# Altium schematic symbol library kalios.SchLib: 578 symbols (part 4 of 4)
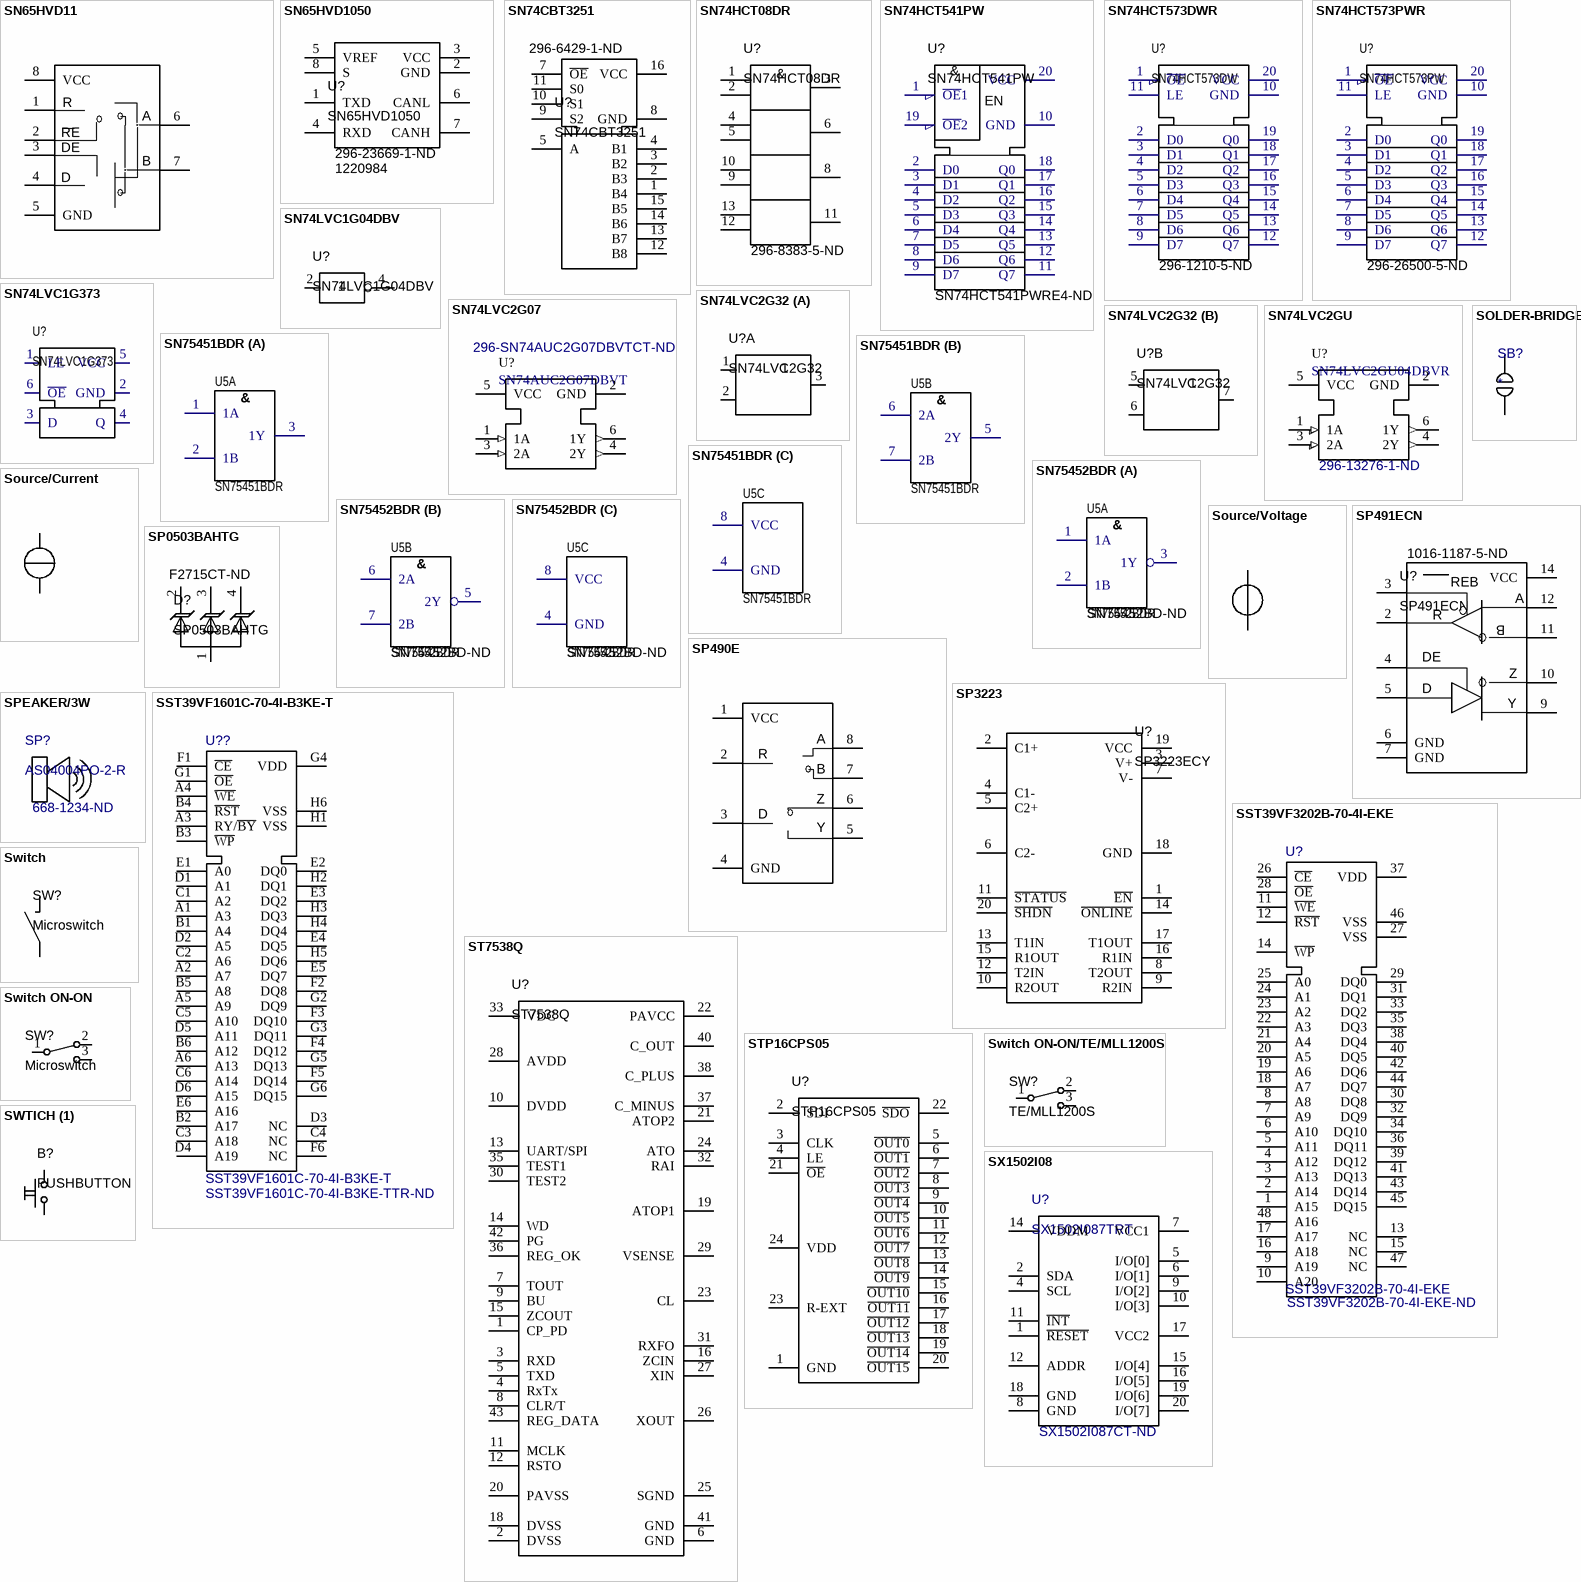
[diagram p27: symbols SN65HVD11 to SX1502I08]

## SN74HCT573PWR
designator U?, comment SN74HCT573PW  Supplier Part Number 1: 296-26500-5-ND
Octal latch with 3-STATE Outputs; Supplier 1: Digi-Key
footprint PW020 (Shrink Small Outline; 20 Leads; Body Width 4.4 mm; Pitch 0.65 mm)
pins: 1 ~{OE}, 2 D0, 3 D1, 4 D2, 5 D3, 6 D4, 7 D5, 8 D6, 9 D7, 10 GND, 11 LE, 12 Q7, 13 Q6, 14 Q5, 15 Q4, 16 Q3, 17 Q2, 18 Q1, 19 Q0, 20 VCC

## SN74LVC1G04DBV
designator U?
Supplier 1: Farnell; Supplier 2: Digi-Key; Supplier Part Number 1: 1287591RL; Supplier Part Number 2: 296-11599-6-ND
footprint DBV005 (SOT-23/SC-74A; 5 Leads; Body 3 x 3 mm, inc. leads (LxW max))
pins: 2 A, 3 GND (power) hidden to GND, 4 Y, 5 VCC (power) hidden to VCC
text: 1

## SN74LVC1G373
designator U?
pins: 1 LE, 2 GND, 3 D, 4 Q, 5 VCC, 6 ~{OE}

## SN74LVC2G07
designator U?, comment SN74AUC2G07DBVT  Supplier Part Number 1: 296-SN74AUC2G07DBVTCT-ND
Buffer, Non-Inverting 2 Element 1 Bit per Element Open Drain Output SOT-23-6; Supplier 1: Digi-Key
footprint SOT23-6 (SOT23, 6-Leads, Body 3.1x3.2mm (max), Pitch 0.95mm, IPC Medium Density)
pins: 1 1A (in), 2 GND (power), 3 2A (in), 4 2Y (out), 5 VCC (power), 6 1Y (out)

## SN74LVC2G32
designator U?
part A pins: 1 B, 2 A, 3 Y, 4 GND (power) hidden to GND, 8 VCC (power) hidden to VCC
part B pins: 5 A, 6 A, 7 Y

## SN74LVC2GU
designator U?, comment SN74LVC2GU04DBVR  Supplier Part Number 1: 296-13276-1-ND
IC INVERTER 2CH 2-INP SOT23-6; Supplier 1: Digi-Key
footprint SOT23-6 (SOT23, 6-Leads, Body 3.1x3.2mm (max), Pitch 0.95mm, IPC Medium Density)
pins: 1 1A (in), 2 GND (power), 3 2A (in), 4 2Y (out), 5 VCC (power), 6 1Y (out)

## SN75451BDR
designator U5
Dual AND - Peripheral Driver; Supplier 1: Digi-Key; Supplier Part Number 1: 296-14960-1-ND
footprint D008_M (8-Pin Small Outline Integrated Circuit 1.27 mm Pitch, IPC Low Density)
part A pins: 1 1A, 2 1B, 3 1Y
part B pins: 5 2Y, 6 2A, 7 2B
part C pins: 4 GND, 8 VCC
1 alternate drawing of the same symbol
part A text: &
part B text: &

## SN75452BDR
designator U5  Supplier Part Number 1: SN75452BD-ND
Dual AND - Peripheral Driver; Supplier 1: Digi-Key
footprint D008_M (8-Pin Small Outline Integrated Circuit 1.27 mm Pitch, IPC Low Density)
part A pins: 1 1A, 2 1B, 3 1Y
part B pins: 5 2Y, 6 2A, 7 2B
part C pins: 4 GND, 8 VCC
1 alternate drawing of the same symbol
part A text: &
part B text: &

## SOLDER-BRIDGE
designator SB?
footprint JUMPER/SB
pins: 1, 2

## Source/Current
designator I?
Current Source; Supplier 1: Digi-Key
pins: 1, 2

## Source/Voltage
designator V?
Voltage Source; Supplier 1: Digi-Key
pins: 1, 2

## SP490E
designator U?
RS485 FULL DUPLEX TRANSCIEVER; Supplier 1: Digi-Key
footprint SOIC8 (8-Pin Small Outline Integrated Circuit 1.27 mm Pitch, IPC Low Density)
pins: 1 VCC, 2 R, 3 D, 4 GND, 5 Y, 6 Z, 7 B, 8 A

## SP491ECN
designator U?  Supplier Part Number 1: 1016-1187-5-ND
Supplier 1: Digi-Key
footprint SOIC14 (14-Pin Small Outline Integrated Circuit 1.27 mm Pitch, IPC Low Density)
pins: 2 R, 3 ~{REB}, 4 DE, 5 D, 6 GND, 7 GND, 9 Y, 10 Z, 11 B, 12 A, 14 VCC
text: REB

## SP0503BAHTG
designator D?  Supplier Part Number 1: F2715CT-ND
TVS AVAL DIODE ARRAY 3 CH SOT143; Supplier 1: Digi-Key
pins: 1, 2, 3, 4

## SP3223
designator U?, comment SP3223ECY
IC TXRX RS232 ESD 20TSSOP
footprint TSSOP20 (TSOP, 20-Leads, Body 6.6x4.5mm (max), Pitch 0.65mm, IPC Low Density)
pins: 1 ~{EN}, 2 C1+, 3 V+, 4 C1-, 5 C2+, 6 C2-, 7 V-, 8 T2OUT, 9 R2IN, 10 R2OUT, 11 ~{STATUS}, 12 T2IN, 13 T1IN, 14 ~{ONLINE}, 15 R1OUT, 16 R1IN, 17 T1OUT, 18 GND, 19 VCC, 20 ~{SHDN}

## SPEAKER/3W
designator SP?, comment AS04004PO-2-R  Supplier Part Number 1: 668-1234-ND  (mechanical)
SPEAKER 4OHM 3W TOP PORT 82DB; Supplier 1: Digi-Key

## SST39VF1601C-70-4I-B3KE-T
designator U??  Supplier Part Number 1: SST39VF1601C-70-4I-B3KE-TTR-ND
FLASH Memory IC 16Mb (1M x 16) Parallel 70 ns 48-TFBGA (6x8); Supplier 1: Digi-Key
pins: A1 A3, A2 A7, A3 RY/~{BY}, A4 ~{WE}, A5 A9, A6 A13, B1 A4, B2 A17, B3 ~{WP}, B4 ~{RST}, B5 A8, B6 A12, C1 A2, C2 A6, C3 A18, C4 NC, C5 A10, C6 A14, D1 A1, D2 A5, D3 NC, D4 A19, D5 A11, D6 A15, E1 A0, E2 DQ0, E3 DQ2, E4 DQ5, E5 DQ7, E6 A16, F1 ~{CE}, F2 DQ8, F3 DQ10, F4 DQ12, F5 DQ14, F6 NC, G1 ~{OE}, G2 DQ9, G3 DQ11, G4 VDD, G5 DQ13, G6 DQ15, H1 VSS, H2 DQ1, H3 DQ3, H4 DQ4, H5 DQ6, H6 VSS

## SST39VF3202B-70-4I-EKE
designator U?  Supplier Part Number 1: SST39VF3202B-70-4I-EKE-ND
FLASH Memory IC 32Mb (2M x 16) Parallel 70 ns 48-TSOP; Supplier 1: Digi-Key
footprint TSOP48_EKE_SST_MCH
pins: 1 A15, 2 A14, 3 A13, 4 A12, 5 A11, 6 A10, 7 A9, 8 A8, 9 A19, 10 A20, 11 ~{WE}, 12 ~{RST}, 13 NC, 14 ~{WP}, 15 NC, 16 A18, 17 A17, 18 A7, 19 A6, 20 A5, 21 A4, 22 A3, 23 A2, 24 A1, 25 A0, 26 ~{CE}, 27 VSS, 28 ~{OE}, 29 DQ0, 30 DQ8, 31 DQ1, 32 DQ9, 33 DQ2, 34 DQ10, 35 DQ3, 36 DQ11, 37 VDD, 38 DQ4, 39 DQ12, 40 DQ5, 41 DQ13, 42 DQ6, 43 DQ14, 44 DQ7, 45 DQ15, 46 VSS, 47 NC, 48 A16

## ST7538Q
designator U?
pins: 1 CP_PD, 2 DVSS, 3 RXD, 4 RxTx, 5 TXD, 6 GND, 7 TOUT, 8 CLR/T, 9 BU, 10 DVDD, 11 MCLK, 12 RSTO, 13 UART/SPI, 14 WD, 15 ZCOUT, 16 ZCIN, 18 DVSS, 19 ATOP1, 20 PAVSS, 21 ATOP2, 22 PAVCC, 23 CL, 24 ATO, 25 SGND, 26 XOUT, 27 XIN, 28 AVDD, 29 VSENSE, 30 TEST2, 31 RXFO, 32 RAI, 33 VDC, 35 TEST1, 36 REG_OK, 37 C_MINUS, 38 C_PLUS, 40 C_OUT, 41 GND, 42 PG, 43 REG_DATA

## STP16CPS05
designator U?
footprint SOIC24 (SOIC, 24-Leads, Body 15.6x7.6mm (max), Pitch 1.27mm, IPC Medium Density)
pins: 1 GND, 2 SDI, 3 CLK, 4 LE, 5 ~{OUT0}, 6 ~{OUT1}, 7 ~{OUT2}, 8 ~{OUT3}, 9 ~{OUT4}, 10 ~{OUT5}, 11 ~{OUT6}, 12 ~{OUT7}, 13 ~{OUT8}, 14 ~{OUT9}, 15 ~{OUT10}, 16 ~{OUT11}, 17 ~{OUT12}, 18 ~{OUT13}, 19 ~{OUT14}, 20 ~{OUT15}, 21 ~{OE}, 22 ~{SDO}, 23 R-EXT, 24 VDD

## Switch
designator SW?, comment Microswitch
pins: 1, 2

## Switch ON-ON
designator SW?, comment Microswitch
pins: 1, 2, 3

## Switch ON-ON/TE/MLL1200S
designator SW?, comment TE/MLL1200S
SWITCH SLIDE SMD SPDT SIDE
footprint TE/MLL1200S (Footprint not found)
pins: 1, 2, 3

## SWTICH (1)
designator B?, comment PUSHBUTTON
pins: 1, 2

## SX1502I08
designator U?, comment SX1502I087TRT  Supplier Part Number 1: SX1502I087CT-ND
IC GPIO EXPANDER I2C 8CH 20QFNI/O Expander 8 I²C 400kHz 20-QFN-UT (3x3); Supplier 1: Digi-Key
footprint QFN40P300X300X50_HS-21N (QFN, 20-Leads, Body 3.00x3.00mm, Pitch 0.40mm, Thermal Pad 1.68x1.68mm, IPC Medium Density)
pins: 1 ~{RESET}, 2 SDA, 4 SCL, 5 I/O[0], 6 I/O[1], 7 VCC1, 8 GND, 9 I/O[2], 10 I/O[3], 11 ~{INT}, 12 ADDR, 14 VDDM, 15 I/O[4], 16 I/O[5], 17 VCC2, 18 GND, 19 I/O[6], 20 I/O[7]

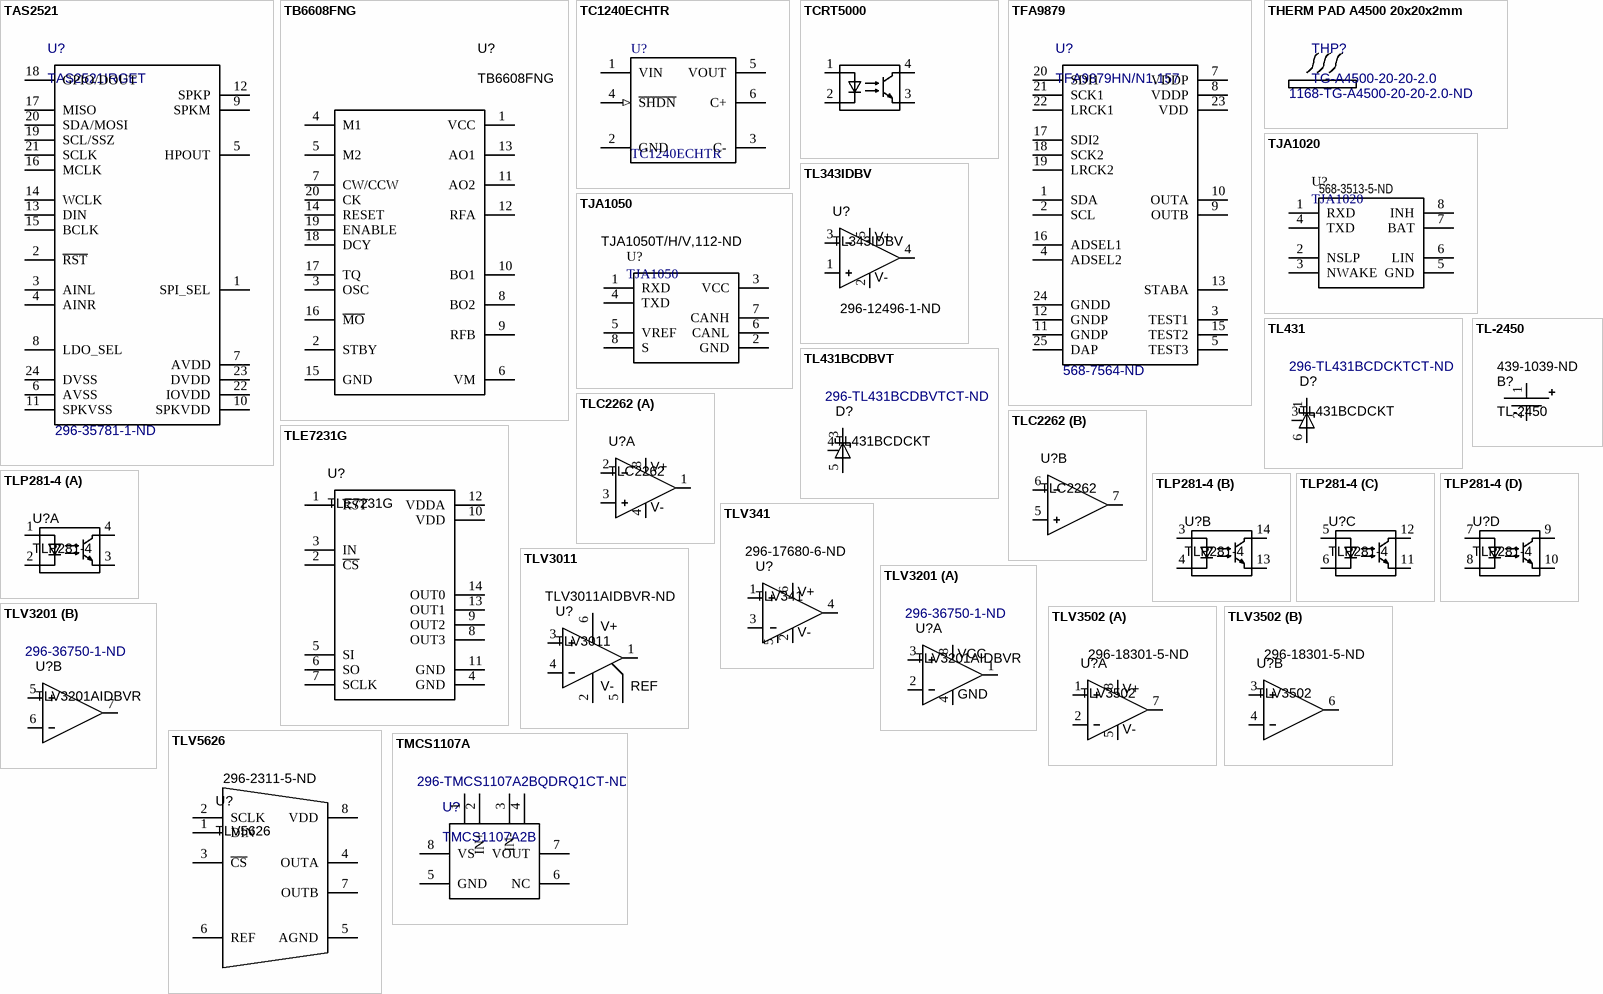
[diagram p19: symbols TAS2521 to TMCS1107A]

## TAS2521
designator U?, comment TAS2521IRGET  Supplier Part Number 1: 296-35781-1-ND
IC AMP CLASS D MONO 2W 24VQFN; Supplier 1: Digi-Key
footprint QFN50P400X400X100-25N
pins: 1 SPI_SEL, 2 ~{RST}, 3 AINL, 4 AINR, 5 HPOUT, 6 AVSS, 7 AVDD, 8 LDO_SEL, 9 SPKM, 10 SPKVDD, 11 SPKVSS, 12 SPKP, 13 DIN, 14 WCLK, 15 BCLK, 16 MCLK, 17 MISO, 18 GPIO/DOUT, 19 SCL/SSZ, 20 SDA/MOSI, 21 SCLK, 22 IOVDD, 23 DVDD, 24 DVSS

## TB6608FNG
designator U?
pins: 1 VCC, 2 STBY, 3 OSC, 4 M1, 5 M2, 6 VM, 7 CW/CCW, 8 BO2, 9 RFB, 10 BO1, 11 AO2, 12 RFA, 13 AO1, 14 RESET, 15 GND, 16 ~{MO}, 17 TQ, 18 DCY, 19 ENABLE, 20 CK

## TC1240ECHTR
designator U?
Positive Doubling Charge Pumps with Shutdown, +2.5V to +4.0V, 6-Pin SOT-23, Industrial Temperature, Tape and Reel; Published: 29-Jan-2009; DatasheetVersion: revC, May-2003; PackageVersion: revAW, Oct-2008; PackageReference: SOT-23-CH6; Publisher: Altium Limited; PackageDescription: 6-Lead Plastic Small Outline Transistor (CH) [SOT-23]; Code_IPC: SOT26A-6; ComponentLink1Description: Manufacturer Link; ComponentLink1URL: http://www.microchip.com; ComponentLink2Description: Datasheet; ComponentLink2URL: http://ww1.microchip.com/downloads/en/DeviceDoc/21516c.pdf; ComponentLink3Description: Packaging Specification; ComponentLink3URL: http://ww1.microchip.com/downloads/en/PackagingSpec/00049AW.pdf
footprint SOT-23-CH6_N (SOT23, 6-Leads, Body 2.9x1.6mm, Pitch 0.95mm, Lead Span 2.7mm, IPC Medium Density)
footprint SOT-23-CH6_L (SOT23, 6-Leads, Body 2.9x1.6mm, Pitch 0.95mm, Lead Span 2.7mm, IPC High Density)
footprint SOT-23-CH6_M (SOT23, 6-Leads, Body 2.9x1.6mm, Pitch 0.95mm, Lead Span 2.7mm, IPC Low Density)
pins: 1 VIN (power), 2 GND (power), 3 C-, 4 ~{SHDN} (in), 5 VOUT (power), 6 C+

## TCRT5000
designator U?
Supplier 1: Digi-Key
pins: 1, 2, 3, 4

## TFA9879
designator U?, comment TFA9879HN/N1,157  Supplier Part Number 1: 568-7564-ND
IC AMP CLSS D MONO 2.75W 24HVQFN; Supplier 1: Digi-Key
footprint QFN50P260X260X100-25N
pins: 1 SDA, 2 SCL, 3 TEST1, 4 ADSEL2, 5 TEST3, 7 VDDP, 8 VDDP, 9 OUTB, 10 OUTA, 11 GNDP, 12 GNDP, 13 STABA, 15 TEST2, 16 ADSEL1, 17 SDI2, 18 SCK2, 19 LRCK2, 20 SDI1, 21 SCK1, 22 LRCK1, 23 VDD, 24 GNDD, 25 DAP

## THERM PAD A4500 20x20x2mm
designator THP?, comment TG-A4500-20-20-2.0  Supplier Part Number 1: 1168-TG-A4500-20-20-2.0-ND  (mechanical)
Thermal Pad Purple 20.00mm x 20.00mm Square Tacky - Both Sides; Supplier 1: Digi-Key

## TJA1020
designator U?  Supplier Part Number 1: 568-3513-5-ND
Supplier 1: Digi-Key
footprint SOIC8 (8-Pin Small Outline Integrated Circuit 1.27 mm Pitch, IPC Low Density)
pins: 1 RXD, 2 NSLP, 3 NWAKE, 4 TXD, 5 GND, 6 LIN, 7 BAT, 8 INH

## TJA1050
designator U?  Supplier Part Number 1: TJA1050T/H/V,112-ND
Supplier 1: Digi-Key
footprint SOIC8 (8-Pin Small Outline Integrated Circuit 1.27 mm Pitch, IPC Low Density)
pins: 1 RXD, 2 GND, 3 VCC, 4 TXD, 5 VREF, 6 CANL, 7 CANH, 8 S

## TL343IDBV
designator U?  Supplier Part Number 2: 296-12496-1-ND
Single low-power operational amplifier; Supplier 1: Farnell; Supplier 2: Digi-Key; Supplier Part Number 1: 1755394
footprint DBV005 (SOT-23/SC-74A; 5 Leads; Body 3 x 3 mm, inc. leads (LxW max))
pins: 1 IN+, 2 V-, 3 IN-, 4 OUT, 5 V+
1 alternate drawing of the same symbol

## TL431
designator D?, comment TL431BCDCKT  Supplier Part Number 1: 296-TL431BCDCKTCT-ND
IC VREF SHUNT ADJ 0.5% SC70-6; Supplier 1: Digi-Key; Value: TL431BCDCKT
footprint SC70-6 (SOT363, 6-Leads, Body 2x1.3mm, Pitch 0.65mm, Lead Span 2.1mm, IPC Low Density)
pins: 1 Cathode, 3 Ref, 6 Anode
1 alternate drawing of the same symbol

## TL431BCDBVT
designator D?, comment TL431BCDCKT  Supplier Part Number 1: 296-TL431BCDBVTCT-ND
IC VREF SHUNT ADJ 0.5% SC70-6; Value: TL431BCDCKT; Supplier 1: Digi-Key
footprint SOT23-5 (SOT23, 5-Leads, Body 3.0x2.6mm (max), Pitch 0.95mm, IPC Low Density)
pins: 3 Cathode, 4 Ref, 5 Anode
1 alternate drawing of the same symbol

## TL-2450
designator B?  Supplier Part Number 1: 439-1039-ND
Supplier 1: Digi-Key
pins: 1 +, 2 -

## TLC2262
designator U?
Dual Operational Amplifier
footprint SOIC8 (8-Pin Small Outline Integrated Circuit 1.27 mm Pitch, IPC Low Density)
part A pins: 1 OUT, 2 IN-, 3 IN+, 4 V-, 8 V+
part B pins: 5 IN+, 6 IN-, 7 OUT
1 alternate drawing of the same symbol

## TLE7231G
designator U?
IC DRIVER SPI 4CH LS DSO-14
pins: 1 ~{RST}, 2 ~{CS}, 3 IN, 4 GND, 5 SI, 6 SO, 7 SCLK, 8 OUT3, 9 OUT2, 10 VDD, 11 GND, 12 VDDA, 13 OUT1, 14 OUT0

## TLP281-4
designator U?
footprint TLP281-4 (SOIC, 16-Leads, Body 10.5x4.4mm (max), Pitch 1.27mm, IPC Low Density)
part A pins: 1, 2, 3, 4
part B pins: 3, 4, 13, 14
part C pins: 5, 6, 11, 12
part D pins: 7, 8, 9, 10

## TLV341
designator U?  Supplier Part Number 1: 296-17680-6-ND
IC OPAMP GP R-R 2.3MHz SOT23-6; Supplier 1: Digi-Key
footprint SOT23-6 (SOT23, 6-Leads, Body 3.1x3.2mm (max), Pitch 0.95mm, IPC Medium Density)
pins: 1 IN+, 2 GND, 3 IN-, 4 OUT, 5 SHDN, 6 V+
text: V-

## TLV3011
designator U?  Supplier Part Number 1: TLV3011AIDBVR-ND
IC COMPARATOR 1.8V SOT23-6; Supplier 1: Digi-Key
pins: 1 OUT, 2 V-, 3 IN+, 4 IN-, 5 REF, 6 V+

## TLV3201
designator U?, comment TLV3201AIDBVR  Supplier Part Number 1: 296-36750-1-ND
Comparator General Purpose Push-Pull SOT-23-5 / IC COMPARATOR RRI SGL SOT23-5; Supplier 1: Digi-Key
part A pins: 1 OUT, 2 IN-, 3 IN+, 4 GND, 8 V+
part B pins: 5 IN+, 6 IN-, 7 OUT
1 alternate drawing of the same symbol
part A text: VCC

## TLV3502
designator U?  Supplier Part Number 1: 296-18301-5-ND
4.5ns Rail-to-Rail, High-Speed Comparator; Supplier 1: Digi-Key
part A pins: 1 IN+, 2 IN-, 5 V-, 7 OUT, 8 V+
part B pins: 3 IN+, 4 IN-, 6 OUT
1 alternate drawing of the same symbol

## TLV5626
designator U?  Supplier Part Number 1: 296-2311-5-ND
Supplier 1: Digi-Key
footprint SOIC8 (8-Pin Small Outline Integrated Circuit 1.27 mm Pitch, IPC Low Density)
pins: 1 DIN, 2 SCLK, 3 ~{CS}, 4 OUTA, 5 AGND, 6 REF, 7 OUTB, 8 VDD

## TMCS1107A
designator U?, comment TMCS1107A2B  Supplier Part Number 1: 296-TMCS1107A2BQDRQ1CT-ND
AEC-Q100, 420-V ISOLATED HALL-EF; Supplier 1: Digi-Key; Value: TMCS1107A2B
footprint SOIC8 (8-Pin Small Outline Integrated Circuit 1.27 mm Pitch, IPC Low Density)
pins: 1 IN+, 2 IN+, 3 IN-, 4 IN-, 5 GND, 6 NC, 7 VOUT, 8 VS

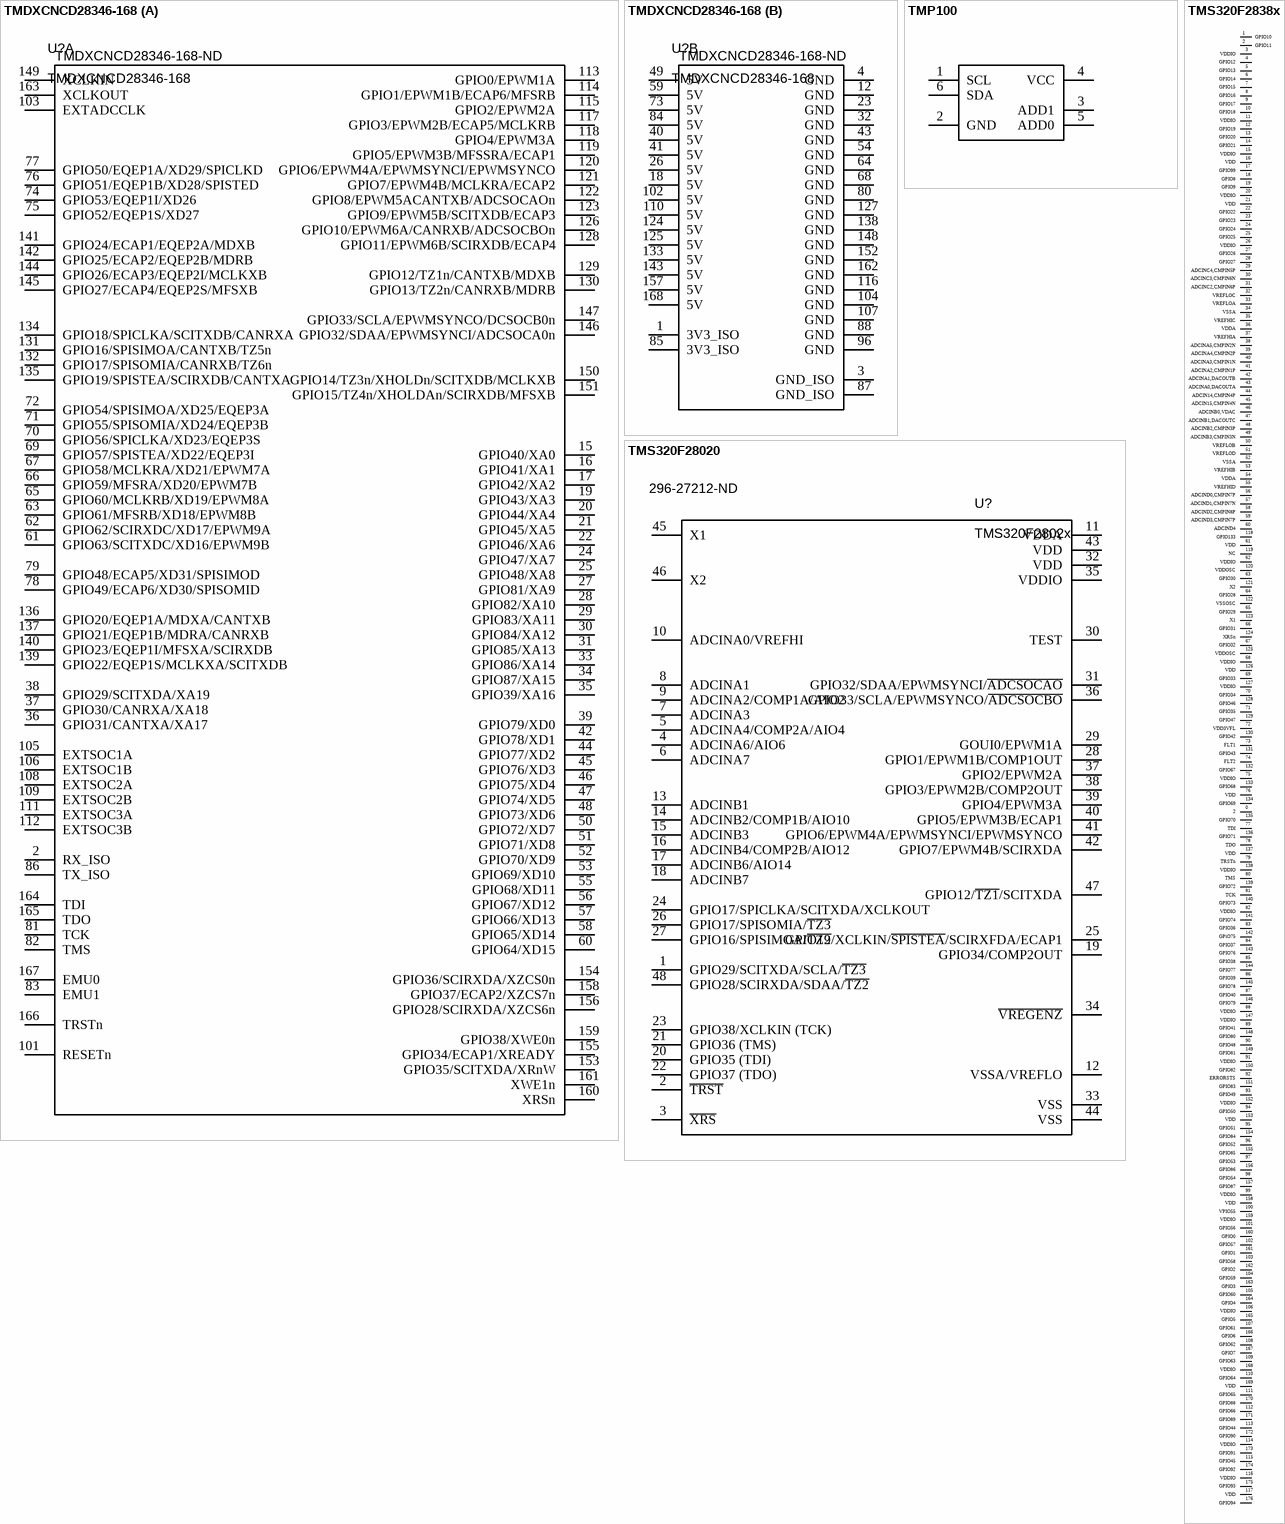
[diagram p20: symbols TMDXCNCD28346-168 to TMS320F28020]

## TMDXCNCD28346-168
designator U?  Supplier Part Number 1: TMDXCNCD28346-168-ND
C28346 Control Card DIMM 168; Supplier 1: Digi-Key
footprint Tyco/1-5390171-6/DIMM168
part A pins: 2 RX_ISO, 15 GPIO40/XA0, 16 GPIO41/XA1, 17 GPIO42/XA2, 19 GPIO43/XA3, 20 GPIO44/XA4, 21 GPIO45/XA5, 22 GPIO46/XA6, 24 GPIO47/XA7, 25 GPIO48/XA8, 27 GPIO81/XA9, 28 GPIO82/XA10, 29 GPIO83/XA11, 30 GPIO84/XA12, 31 GPIO85/XA13, 33 GPIO86/XA14, 34 GPIO87/XA15, 35 GPIO39/XA16, 36 GPIO31/CANTXA/XA17, 37 GPIO30/CANRXA/XA18, 38 GPIO29/SCITXDA/XA19, 39 GPIO79/XD0, 42 GPIO78/XD1, 44 GPIO77/XD2, 45 GPIO76/XD3, 46 GPIO75/XD4, 47 GPIO74/XD5, 48 GPIO73/XD6, 50 GPIO72/XD7, 51 GPIO71/XD8, 52 GPIO70/XD9, 53 GPIO69/XD10, 55 GPIO68/XD11, 56 GPIO67/XD12, 57 GPIO66/XD13, 58 GPIO65/XD14, 60 GPIO64/XD15, 61 GPIO63/SCITXDC/XD16/EPWM9B, 62 GPIO62/SCIRXDC/XD17/EPWM9A, 63 GPIO61/MFSRB/XD18/EPWM8B, 65 GPIO60/MCLKRB/XD19/EPWM8A, 66 GPIO59/MFSRA/XD20/EPWM7B, 67 GPIO58/MCLKRA/XD21/EPWM7A, 69 GPIO57/SPISTEA/XD22/EQEP3I, 70 GPIO56/SPICLKA/XD23/EQEP3S, 71 GPIO55/SPISOMIA/XD24/EQEP3B, 72 GPIO54/SPISIMOA/XD25/EQEP3A, 74 GPIO53/EQEP1I/XD26, 75 GPIO52/EQEP1S/XD27, 76 GPIO51/EQEP1B/XD28/SPISTED, 77 GPIO50/EQEP1A/XD29/SPICLKD, 78 GPIO49/ECAP6/XD30/SPISOMID, 79 GPIO48/ECAP5/XD31/SPISIMOD, 81 TCK, 82 TMS, 83 EMU1, 86 TX_ISO, 101 RESETn, 103 EXTADCCLK, 105 EXTSOC1A, 106 EXTSOC1B, 108 EXTSOC2A, 109 EXTSOC2B, 111 EXTSOC3A, 112 EXTSOC3B, 113 GPIO0/EPWM1A, 114 GPIO1/EPWM1B/ECAP6/MFSRB, 115 GPIO2/EPWM2A, 117 GPIO3/EPWM2B/ECAP5/MCLKRB, 118 GPIO4/EPWM3A, 119 GPIO5/EPWM3B/MFSSRA/ECAP1, 120 GPIO6/EPWM4A/EPWMSYNCI/EPWMSYNCO, 121 GPIO7/EPWM4B/MCLKRA/ECAP2, 122 GPIO8/EPWM5ACANTXB/ADCSOCAOn, 123 GPIO9/EPWM5B/SCITXDB/ECAP3, 126 GPIO10/EPWM6A/CANRXB/ADCSOCBOn, 128 GPIO11/EPWM6B/SCIRXDB/ECAP4, 129 GPIO12/TZ1n/CANTXB/MDXB, 130 GPIO13/TZ2n/CANRXB/MDRB, 131 GPIO16/SPISIMOA/CANTXB/TZ5n, 132 GPIO17/SPISOMIA/CANRXB/TZ6n, 134 GPIO18/SPICLKA/SCITXDB/CANRXA, 135 GPIO19/SPISTEA/SCIRXDB/CANTXA, 136 GPIO20/EQEP1A/MDXA/CANTXB, 137 GPIO21/EQEP1B/MDRA/CANRXB, 139 GPIO22/EQEP1S/MCLKXA/SCITXDB, 140 GPIO23/EQEP1I/MFSXA/SCIRXDB, 141 GPIO24/ECAP1/EQEP2A/MDXB, 142 GPIO25/ECAP2/EQEP2B/MDRB, 144 GPIO26/ECAP3/EQEP2I/MCLKXB, 145 GPIO27/ECAP4/EQEP2S/MFSXB, 146 GPIO32/SDAA/EPWMSYNCI/ADCSOCA0n, 147 GPIO33/SCLA/EPWMSYNCO/DCSOCB0n, 149 XCLKIN, 150 GPIO14/TZ3n/XHOLDn/SCITXDB/MCLKXB, 151 GPIO15/TZ4n/XHOLDAn/SCIRXDB/MFSXB, 153 GPIO35/SCITXDA/XRnW, 154 GPIO36/SCIRXDA/XZCS0n, 155 GPIO34/ECAP1/XREADY, 156 GPIO28/SCIRXDA/XZCS6n, 158 GPIO37/ECAP2/XZCS7n, 159 GPIO38/XWE0n, 160 XRSn, 161 XWE1n, 163 XCLKOUT, 164 TDI, 165 TDO, 166 TRSTn, 167 EMU0
part B pins: 1 3V3_ISO, 3 GND_ISO, 4 GND, 12 GND, 18 5V, 23 GND, 26 5V, 32 GND, 40 5V, 41 5V, 43 GND, 49 5V, 54 GND, 59 5V, 64 GND, 68 GND, 73 5V, 80 GND, 84 5V, 85 3V3_ISO, 87 GND_ISO, 88 GND, 96 GND, 102 5V, 104 GND, 107 GND, 110 5V, 116 GND, 124 5V, 125 5V, 127 GND, 133 5V, 138 GND, 143 5V, 148 GND, 152 GND, 157 5V, 162 GND, 168 5V

## TMP100
designator U?
IC DIGITAL TEMP SENSOR SOT23-6; Supplier 1: Digi-Key
footprint SOT23-6 (SOT23, 6-Leads, Body 3.1x3.2mm (max), Pitch 0.95mm, IPC Medium Density)
pins: 1 SCL, 2 GND, 3 ADD1, 4 VCC, 5 ADD0, 6 SDA

## TMS320F2838x
designator 1, comment GPIO10
pins: 0 2, 1 GPIO10, 2 GPIO11, 3 VDDIO (power), 4 GPIO12, 5 GPIO13, 6 GPIO14, 7 GPIO15, 8 GPIO16, 9 GPIO17, 10 GPIO18, 11 VDDIO (power), 12 GPIO19, 13 GPIO20, 14 GPIO21, 15 VDDIO (power), 16 VDD (power), 17 GPIO99, 18 GPIO8, 19 GPIO9, 20 VDDIO (power), 21 VDD (power), 22 GPIO22, 23 GPIO23, 24 GPIO24, 25 GPIO25, 26 VDDIO (power), 27 GPIO26, 28 GPIO27, 29 ADCINC4,CMPIN5P, 30 ADCINC3,CMPIN6N, 31 ADCINC2,CMPIN6P, 32 VREFLOC, 33 VREFLOA, 34 VSSA, 35 VREFHIC, 36 VDDA, 37 VREFHIA, 38 ADCINA5,CMPIN2N, 39 ADCINA4,CMPIN2P, 40 ADCINA3,CMPIN1N, 41 ADCINA2,CMPIN1P, 42 ADCINA1,DACOUTB, 43 ADCINA0,DACOUTA, 44 ADCIN14,CMPIN4P, 45 ADCIN15,CMPIN4N, 46 ADCINB0,VDAC, 47 ADCINB1,DACOUTC, 48 ADCINB2,CMPIN3P, 49 ADCINB3,CMPIN3N, 50 VREFLOB, 51 VREFLOD, 52 VSSA, 53 VREFHIB, 54 VDDA, 55 VREFHID, 56 ADCIND0,CMPIN7P, 57 ADCIND1,CMPIN7N, 58 ADCIND2,CMPIN8P, 59 ADCIND3,CMPIN7P, 60 ADCIND4, 61 VDD, 62 VDDIO, 63 GPIO30, 64 GPIO28, 65 GPIO29, 66 GPIO31, 67 GPIO32, 68 VDDIO, 69 GPIO33, 70 GPIO34, 71 GPIO35, 72 VDD3VFL, 73 FLT1, 74 FLT2, 75 VDDIO, 76 VDD, 77 TDI, 78 TDO, 79 TRSTn, 80 TMS, 81 TCK, 82 VDDIO, 83 GPIO36, 84 GPIO37, 85 GPIO38, 86 GPIO39, 87 GPIO40, 88 VDDIO, 89 GPIO41, 90 GPIO48, 91 VDDIO, 92 ERRORSTS, 93 GPIO49, 94 GPIO50, 95 GPIO51, 96 GPIO52, 97 GPIO53, 98 GPIO54, 99 VDDIO, 100 VPIO55, 101 GPIO56, 102 GPIO57, 103 GPIO58, 104 GPIO59, 105 GPIO60, 106 VDDIO, 107 GPIO61, 108 GPIO62, 109 GPIO63, 110 GPIO64, 111 GPIO65, 112 GPIO66, 113 GPIO44, 114 VDDIO, 115 GPIO45, 116 VDDIO, 117 VDD, 118 GPIO133, 119 NC, 120 VDDOSC, 121 X2, 122 VSSOSC, 123 X1, 124 XRSn, 125 VDDOSC, 126 VDD, 127 VDDIO, 128 GPIO46, 129 GPIO47, 130 GPIO42, 131 GPIO43, 132 GPIO67, 133 GPIO68, 134 GPIO69, 135 GPIO70, 136 GPIO71, 137 VDD, 138 VDDIO, 139 GPIO72, 140 GPIO73, 141 GPIO74, 142 GPiO75, 143 GPIO76, 144 GPIO77, 145 GPIO78, 146 GPIO79, 147 VDDIO, 148 GPIO80, 149 GPIO81, 150 GPIO82, 151 GPIO83, 152 VDDIO, 153 VDD, 154 GPIO84, 155 GPIO85, 156 GPIO86, 157 GPIO87, 158 VDD, 159 VDDIO, 160 GPIO0, 161 GPIO1, 162 GPIO2, 163 GPIO3, 164 GPIO4, 165 GPIO5, 166 GPIO6, 167 GPIO7, 168 VDDIO, 169 VDD, 170 GPIO88, 171 GPIO89, 172 GPIO90, 173 GPIO91, 174 GPIO92, 175 GPIO93, 176 GPIO94

## TMS320F28020
designator U?, comment TMS320F2802x  Supplier Part Number 1: 296-27212-ND
Supplier 1: Digi-Key
pins: 1 GPIO29/SCITXDA/SCLA/~{TZ3}, 2 ~{TRST}, 3 ~{XRS}, 4 ADCINA6/AIO6, 5 ADCINA4/COMP2A/AIO4, 6 ADCINA7, 7 ADCINA3, 8 ADCINA1, 9 ADCINA2/COMP1A/AIO2, 10 ADCINA0/VREFHI, 11 VDDA, 12 VSSA/VREFLO, 13 ADCINB1, 14 ADCINB2/COMP1B/AIO10, 15 ADCINB3, 16 ADCINB4/COMP2B/AIO12, 17 ADCINB6/AIO14, 18 ADCINB7, 19 GPIO34/COMP2OUT, 20 GPIO35 (TDI), 21 GPIO36 (TMS), 22 GPIO37 (TDO), 23 GPIO38/XCLKIN (TCK), 24 GPIO17/SPICLKA/SCITXDA/XCLKOUT, 25 GPIO19/XCLKIN/~{SPISTEA}/SCIRXFDA/ECAP1, 26 GPIO17/SPISOMIA/~{TZ3}, 27 GPIO16/SPISIMOA/~{TZ2}, 28 GPIO1/EPWM1B/COMP1OUT, 29 GOUI0/EPWM1A, 30 TEST, 31 GPIO32/SDAA/EPWMSYNCI/~{ADCSOCAO}, 32 VDD, 33 VSS, 34 ~{VREGENZ}, 35 VDDIO, 36 GPIO33/SCLA/EPWMSYNCO/~{ADCSOCBO}, 37 GPIO2/EPWM2A, 38 GPIO3/EPWM2B/COMP2OUT, 39 GPIO4/EPWM3A, 40 GPIO5/EPWM3B/ECAP1, 41 GPIO6/EPWM4A/EPWMSYNCI/EPWMSYNCO, 42 GPIO7/EPWM4B/SCIRXDA, 43 VDD, 44 VSS, 45 X1, 46 X2, 47 GPIO12/~{TZ1}/SCITXDA, 48 GPIO28/SCIRXDA/SDAA/~{TZ2}

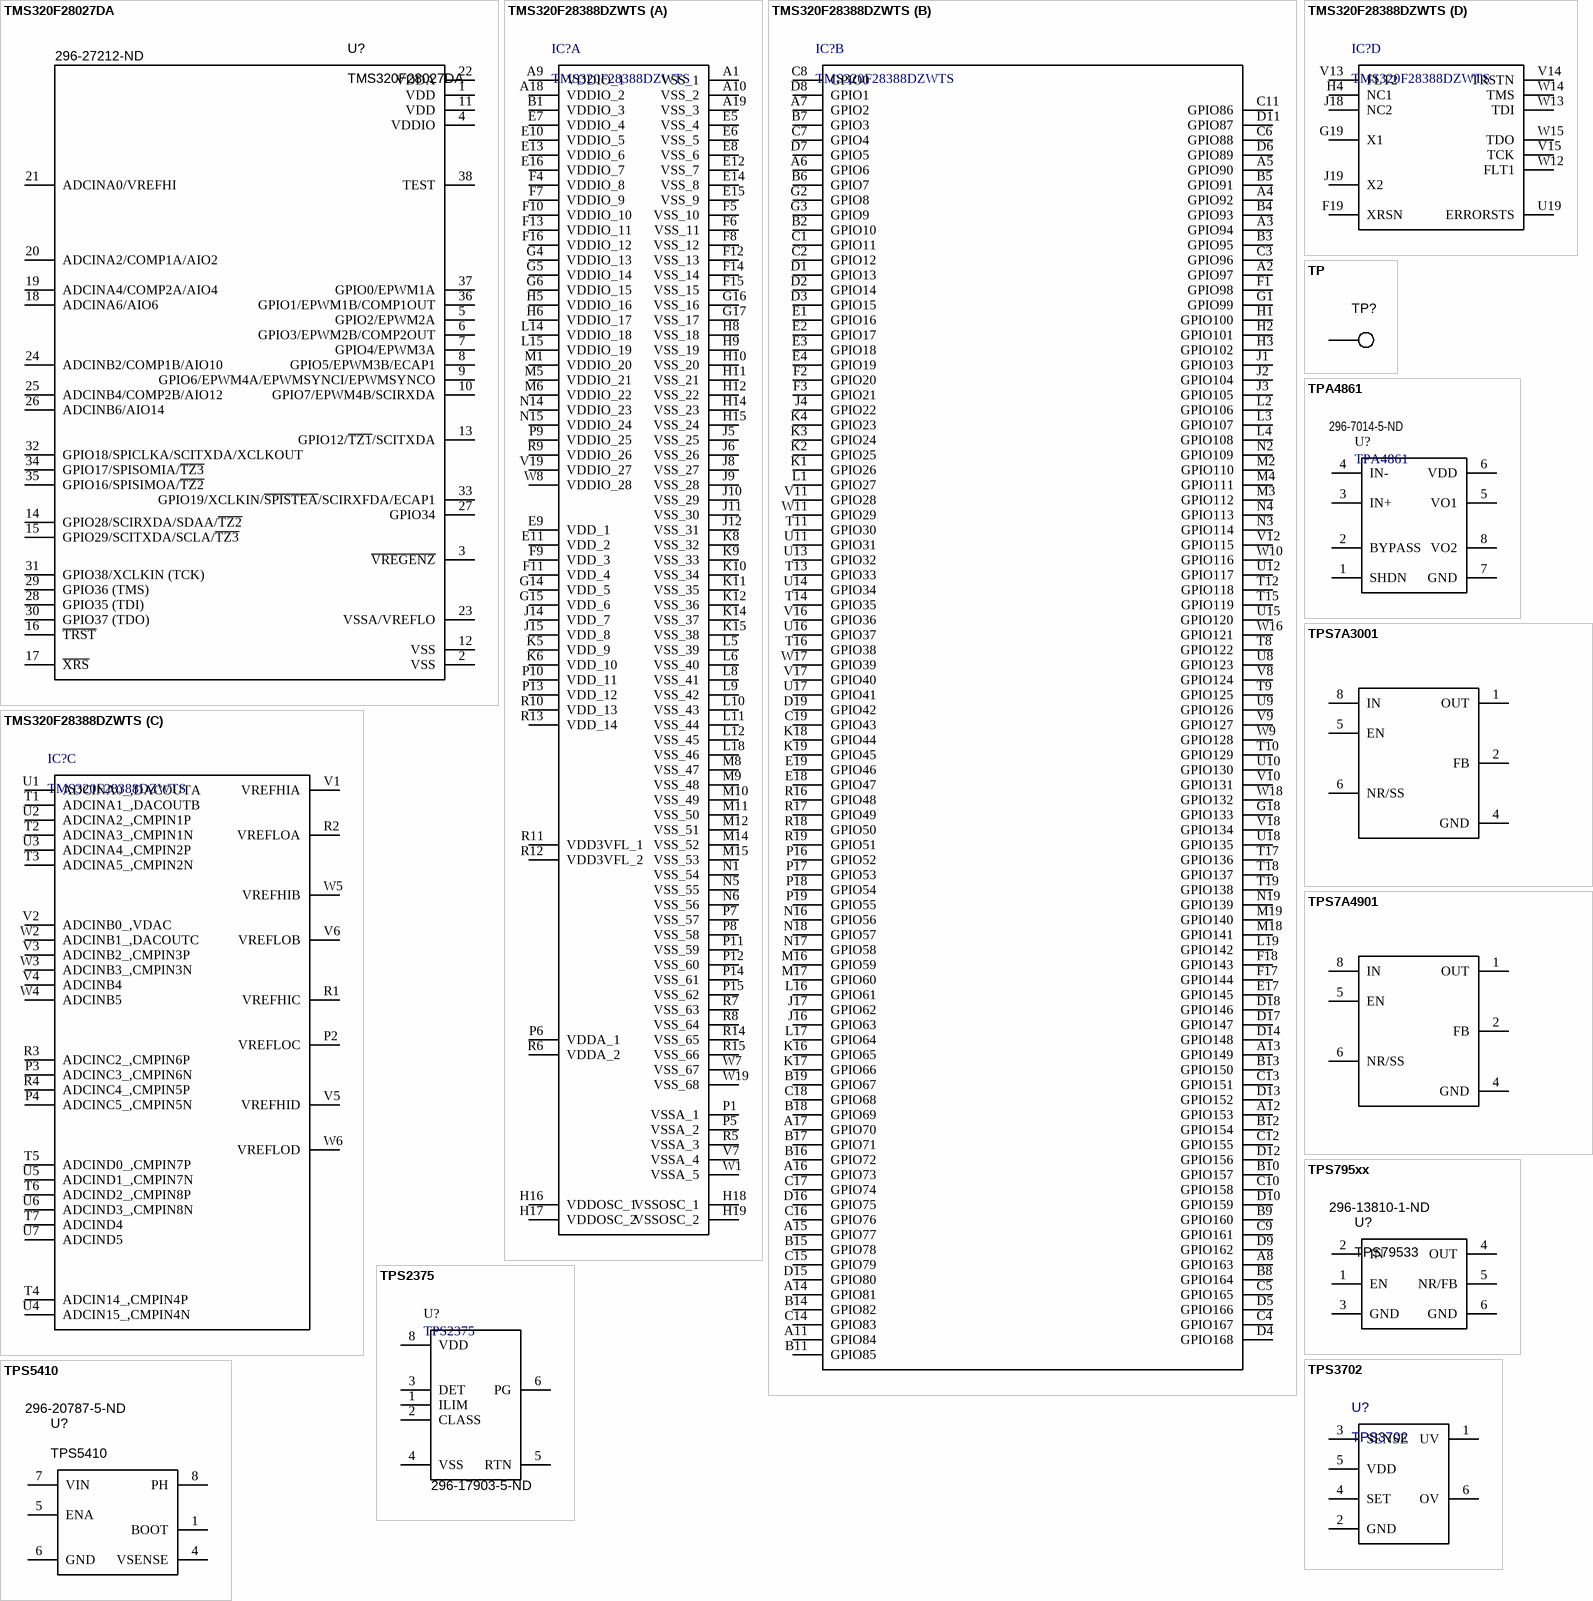
[diagram p21: symbols TMS320F28027DA to TPS5410]

## TMS320F28027DA
designator U?  Supplier Part Number 1: 296-27212-ND
Supplier 1: Digi-Key
footprint TSSOP38 (TSOP, 38-Leads, Body 12.6x6.2mm (max), Pitch 0.65mm, IPC Medium Density)
pins: 1 VDD, 2 VSS, 3 ~{VREGENZ}, 4 VDDIO, 5 GPIO2/EPWM2A, 6 GPIO3/EPWM2B/COMP2OUT, 7 GPIO4/EPWM3A, 8 GPIO5/EPWM3B/ECAP1, 9 GPIO6/EPWM4A/EPWMSYNCI/EPWMSYNCO, 10 GPIO7/EPWM4B/SCIRXDA, 11 VDD, 12 VSS, 13 GPIO12/~{TZ1}/SCITXDA, 14 GPIO28/SCIRXDA/SDAA/~{TZ2}, 15 GPIO29/SCITXDA/SCLA/~{TZ3}, 16 ~{TRST}, 17 ~{XRS}, 18 ADCINA6/AIO6, 19 ADCINA4/COMP2A/AIO4, 20 ADCINA2/COMP1A/AIO2, 21 ADCINA0/VREFHI, 22 VDDA, 23 VSSA/VREFLO, 24 ADCINB2/COMP1B/AIO10, 25 ADCINB4/COMP2B/AIO12, 26 ADCINB6/AIO14, 27 GPIO34, 28 GPIO35 (TDI), 29 GPIO36 (TMS), 30 GPIO37 (TDO), 31 GPIO38/XCLKIN (TCK), 32 GPIO18/SPICLKA/SCITXDA/XCLKOUT, 33 GPIO19/XCLKIN/~{SPISTEA}/SCIRXFDA/ECAP1, 34 GPIO17/SPISOMIA/~{TZ3}, 35 GPIO16/SPISIMOA/~{TZ2}, 36 GPIO1/EPWM1B/COMP1OUT, 37 GPIO0/EPWM1A, 38 TEST

## TMS320F28388DZWTS
designator IC?
C28x C2000™ C28x Fixed-Point Microcontroller IC 32-Bit Dual-Core 200MHz 512KB (256K x 16) FLASH 337-NFBGA (16x16); Manufacturer: Texas Instruments; Datasheet Link: http://www.ti.com/lit/ds/symlink/tms320f28388d.pdf; Height: 1.4mm; Supplier 1: Mouser; Supplier Part Number 1: 595-F28388DZWTS; Manufacturer Part Number: F28388DZWTS
footprint BGA337C80P19X19_1600X1600X140
part A pins: A1 VSS_1, A9 VDDIO_1, A10 VSS_2, A18 VDDIO_2, A19 VSS_3, B1 VDDIO_3, E5 VSS_4, E6 VSS_5, E7 VDDIO_4, E8 VSS_6, E9 VDD_1, E10 VDDIO_5, E11 VDD_2, E12 VSS_7, E13 VDDIO_6, E14 VSS_8, E15 VSS_9, E16 VDDIO_7, F4 VDDIO_8, F5 VSS_10, F6 VSS_11, F7 VDDIO_9, F8 VSS_12, F9 VDD_3, F10 VDDIO_10, F11 VDD_4, F12 VSS_13, F13 VDDIO_11, F14 VSS_14, F15 VSS_15, F16 VDDIO_12, G4 VDDIO_13, G5 VDDIO_14, G6 VDDIO_15, G14 VDD_5, G15 VDD_6, G16 VSS_16, G17 VSS_17, H5 VDDIO_16, H6 VDDIO_17, H8 VSS_18, H9 VSS_19, H10 VSS_20, H11 VSS_21, H12 VSS_22, H14 VSS_23, H15 VSS_24, H16 VDDOSC_1, H17 VDDOSC_2, H18 VSSOSC_1, H19 VSSOSC_2, J5 VSS_25, J6 VSS_26, J8 VSS_27, J9 VSS_28, J10 VSS_29, J11 VSS_30, J12 VSS_31, J14 VDD_7, J15 VDD_8, K5 VDD_9, K6 VDD_10, K8 VSS_32, K9 VSS_33, K10 VSS_34, K11 VSS_35, K12 VSS_36, K14 VSS_37, K15 VSS_38, L5 VSS_39, L6 VSS_40, L8 VSS_41, L9 VSS_42, L10 VSS_43, L11 VSS_44, L12 VSS_45, L14 VDDIO_18, L15 VDDIO_19, L18 VSS_46, M1 VDDIO_20, M5 VDDIO_21, M6 VDDIO_22, M8 VSS_47, M9 VSS_48, M10 VSS_49, M11 VSS_50, M12 VSS_51, M14 VSS_52, M15 VSS_53, N1 VSS_54, N5 VSS_55, N6 VSS_56, N14 VDDIO_23, N15 VDDIO_24, P1 VSSA_1, P5 VSSA_2, P6 VDDA_1, P7 VSS_57, P8 VSS_58, P9 VDDIO_25, P10 VDD_11, P11 VSS_59, P12 VSS_60, P13 VDD_12, P14 VSS_61, P15 VSS_62, R5 VSSA_3, R6 VDDA_2, R7 VSS_63, R8 VSS_64, R9 VDDIO_26, R10 VDD_13, R11 VDD3VFL_1, R12 VDD3VFL_2, R13 VDD_14, R14 VSS_65, R15 VSS_66, V7 VSSA_4, V19 VDDIO_27, W1 VSSA_5, W7 VSS_67, W8 VDDIO_28, W19 VSS_68
part B pins: A2 GPIO97, A3 GPIO94, A4 GPIO92, A5 GPIO90, A6 GPIO6, A7 GPIO2, A8 GPIO163, A11 GPIO84, A12 GPIO153, A13 GPIO149, A14 GPIO81, A15 GPIO77, A16 GPIO73, A17 GPIO70, B2 GPIO10, B3 GPIO95, B4 GPIO93, B5 GPIO91, B6 GPIO7, B7 GPIO3, B8 GPIO164, B9 GPIO160, B10 GPIO157, B11 GPIO85, B12 GPIO154, B13 GPIO150, B14 GPIO82, B15 GPIO78, B16 GPIO72, B17 GPIO71, B18 GPIO69, B19 GPIO67, C1 GPIO11, C2 GPIO12, C3 GPIO96, C4 GPIO167, C5 GPIO165, C6 GPIO88, C7 GPIO4, C8 GPIO0, C9 GPIO161, C10 GPIO158, C11 GPIO86, C12 GPIO155, C13 GPIO151, C14 GPIO83, C15 GPIO79, C16 GPIO76, C17 GPIO74, C18 GPIO68, C19 GPIO43, D1 GPIO13, D2 GPIO14, D3 GPIO15, D4 GPIO168, D5 GPIO166, D6 GPIO89, D7 GPIO5, D8 GPIO1, D9 GPIO162, D10 GPIO159, D11 GPIO87, D12 GPIO156, D13 GPIO152, D14 GPIO148, D15 GPIO80, D16 GPIO75, D17 GPIO147, D18 GPIO146, D19 GPIO42, E1 GPIO16, E2 GPIO17, E3 GPIO18, E4 GPIO19, E17 GPIO145, E18 GPIO47, E19 GPIO46, F1 GPIO98, F2 GPIO20, F3 GPIO21, F17 GPIO144, F18 GPIO143, G1 GPIO99, G2 GPIO8, G3 GPIO9, G18 GPIO133, H1 GPIO100, H2 GPIO101, H3 GPIO102, J1 GPIO103, J2 GPIO104, J3 GPIO105, J4 GPIO22, J16 GPIO63, J17 GPIO62, K1 GPIO26, K2 GPIO25, K3 GPIO24, K4 GPIO23, K16 GPIO65, K17 GPIO66, K18 GPIO44, K19 GPIO45, L1 GPIO27, L2 GPIO106, L3 GPIO107, L4 GPIO108, L16 GPIO61, L17 GPIO64, L19 GPIO142, M2 GPIO110, M3 GPIO112, M4 GPIO111, M16 GPIO59, M17 GPIO60, M18 GPIO141, M19 GPIO140, N2 GPIO109, N3 GPIO114, N4 GPIO113, N16 GPIO56, N17 GPIO58, N18 GPIO57, N19 GPIO139, P16 GPIO52, P17 GPIO53, P18 GPIO54, P19 GPIO55, R16 GPIO48, R17 GPIO49, R18 GPIO50, R19 GPIO51, T8 GPIO122, T9 GPIO125, T10 GPIO129, T11 GPIO30, T12 GPIO118, T13 GPIO33, T14 GPIO35, T15 GPIO119, T16 GPIO38, T17 GPIO136, T18 GPIO137, T19 GPIO138, U8 GPIO123, U9 GPIO126, U10 GPIO130, U11 GPIO31, U12 GPIO117, U13 GPIO32, U14 GPIO34, U15 GPIO120, U16 GPIO37, U17 GPIO41, U18 GPIO135, V8 GPIO124, V9 GPIO127, V10 GPIO131, V11 GPIO28, V12 GPIO115, V16 GPIO36, V17 GPIO40, V18 GPIO134, W9 GPIO128, W10 GPIO116, W11 GPIO29, W16 GPIO121, W17 GPIO39, W18 GPIO132
part C pins: P2 VREFLOC, P3 ADCINC3_,CMPIN6N, P4 ADCINC5_,CMPIN5N, R1 VREFHIC, R2 VREFLOA, R3 ADCINC2_,CMPIN6P, R4 ADCINC4_,CMPIN5P, T1 ADCINA1_,DACOUTB, T2 ADCINA3_,CMPIN1N, T3 ADCINA5_,CMPIN2N, T4 ADCIN14_,CMPIN4P, T5 ADCIND0_,CMPIN7P, T6 ADCIND2_,CMPIN8P, T7 ADCIND4, U1 ADCINA0_,DACOUTA, U2 ADCINA2_,CMPIN1P, U3 ADCINA4_,CMPIN2P, U4 ADCIN15_,CMPIN4N, U5 ADCIND1_,CMPIN7N, U6 ADCIND3_,CMPIN8N, U7 ADCIND5, V1 VREFHIA, V2 ADCINB0_,VDAC, V3 ADCINB2_,CMPIN3P, V4 ADCINB4, V5 VREFHID, V6 VREFLOB, W2 ADCINB1_,DACOUTC, W3 ADCINB3_,CMPIN3N, W4 ADCINB5, W5 VREFHIB, W6 VREFLOD
part D pins: F19 XRSN, G19 X1, H4 NC1, J18 NC2, J19 X2, U19 ERRORSTS, V13 FLT2, V14 TRSTN, V15 TCK, W12 FLT1, W13 TDI, W14 TMS, W15 TDO

## TP
designator TP?  (value not drawn)
Test Point
footprint TP
pins: 1

## TPA4861
designator U?  Supplier Part Number 1: 296-7014-5-ND
IC AMP AUDIO PWR 1.1W MONO 8SOIC; Supplier 1: Digi-Key
footprint SOIC8 (8-Pin Small Outline Integrated Circuit 1.27 mm Pitch, IPC Low Density)
pins: 1 SHDN, 2 BYPASS, 3 IN+, 4 IN-, 5 VO1, 6 VDD, 7 GND, 8 VO2

## TPS7A3001
designator U?
Led 0805 Red; Supplier 1: Digi-Key
footprint MSOP8 (Footprint not found)
pins: 1 OUT, 2 FB, 4 GND, 5 EN, 6 NR/SS, 8 IN

## TPS7A4901
designator D?, comment LTST-C170CKT
Led 0805 Red; Supplier 1: Digi-Key
footprint MSOP8 (Footprint not found)
pins: 1 OUT, 2 FB, 4 GND, 5 EN, 6 NR/SS, 8 IN

## TPS795xx
designator U?, comment TPS79533  Supplier Part Number 1: 296-13810-1-ND
ULTRALOW-NOISE, HIGH-PSRR, FAST, RF, 500-mA  LOW-DROPOUT LINEAR REGULATORS; Supplier 1: Digi-Key
footprint SOT223-6 (SOT223, 6-Leads, Body 6.7x7.3mm (max), Pitch 1.27mm, IPC Medium Density)
pins: 1 EN, 2 IN, 3 GND, 4 OUT, 5 NR/FB, 6 GND

## TPS2375
designator U?  Supplier Part Number 1: 296-17903-5-ND
IC CTRLR POE POWERED IEEE 8TSSOP; Supplier 1: Digi-Key
footprint TSSOP8 (Shrink Small Outline; 8 Leads; Body Width 4.4 mm; Pitch 0.65 mm)
pins: 1 ILIM, 2 CLASS, 3 DET, 4 VSS, 5 RTN, 6 PG, 8 VDD

## TPS3702
designator U?
IC SUPERVISOR 1 CHANNEL TSOT23-6 / Supervisor Open Drain or Open Collector 1 Channel SOT-23-THIN
footprint SOT23-6 (SOT23, 6-Leads, Body 3.1x3.2mm (max), Pitch 0.95mm, IPC Medium Density)
pins: 1 UV, 2 GND, 3 SENSE, 4 SET, 5 VDD, 6 OV

## TPS5410
designator U?  Supplier Part Number 1: 296-20787-5-ND
Supplier 1: Digi-Key
footprint SOIC8 (8-Pin Small Outline Integrated Circuit 1.27 mm Pitch, IPC Low Density)
pins: 1 BOOT, 4 VSENSE, 5 ENA, 6 GND, 7 VIN, 8 PH

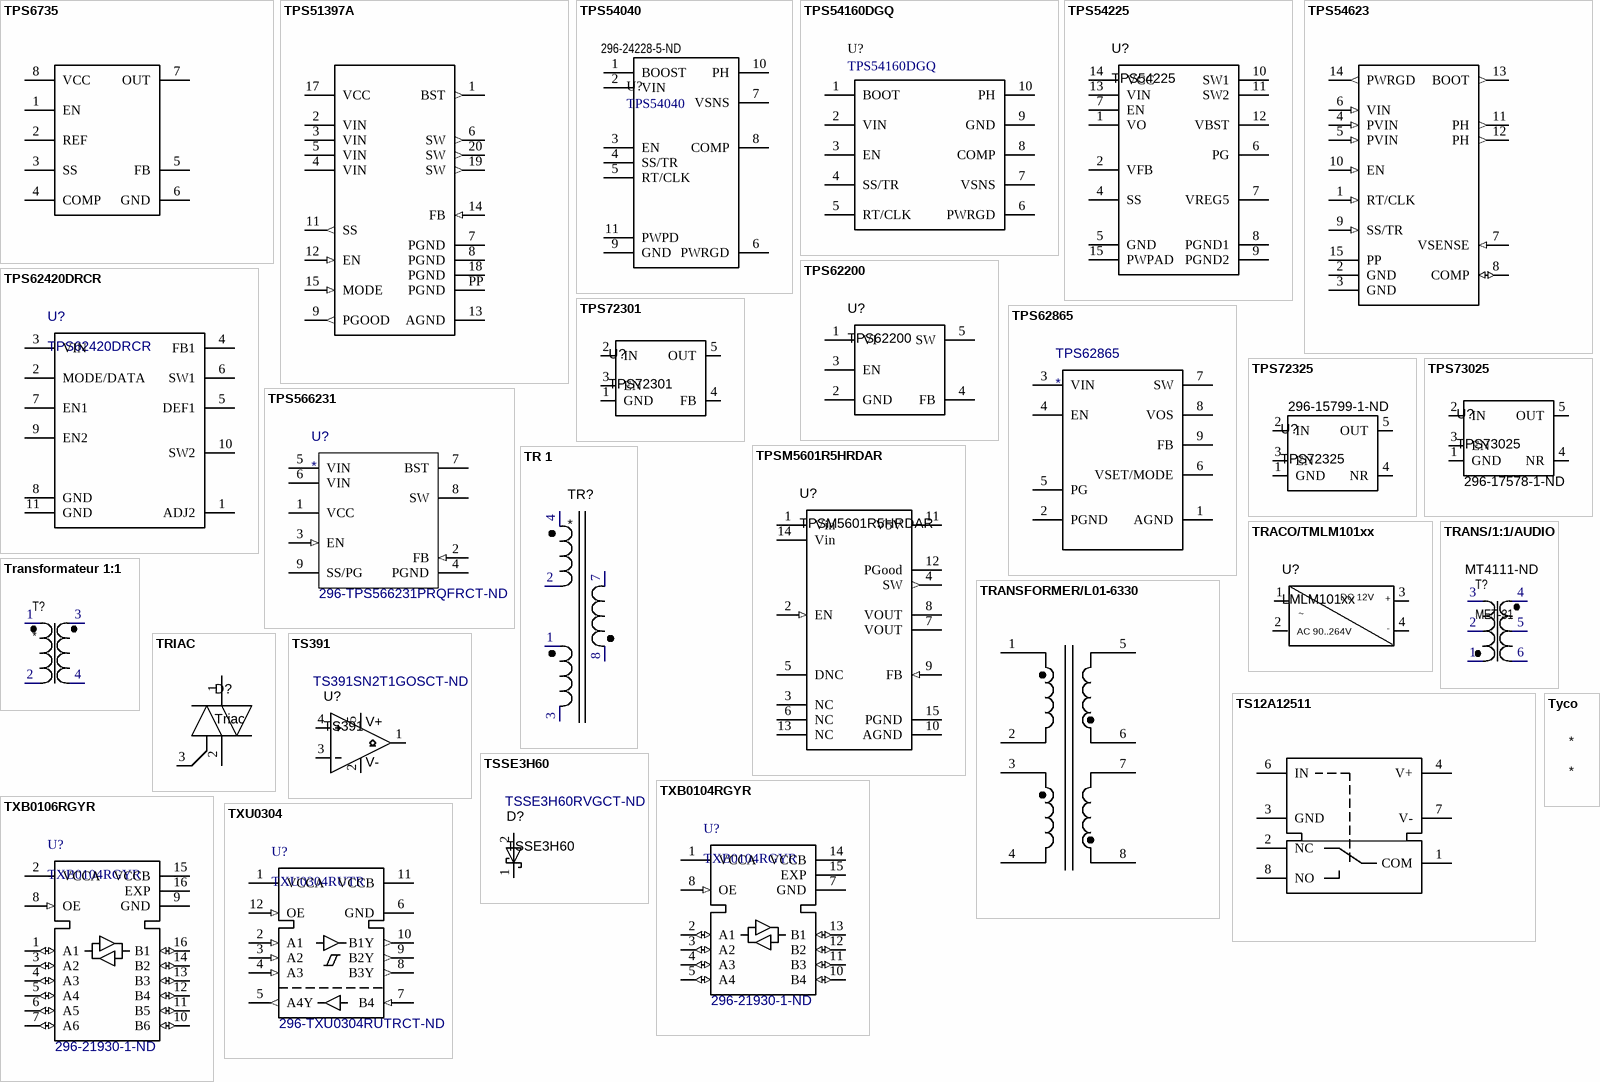
[diagram p22: symbols TPS6735 to Tyco]

## TPS6735
designator U?  Supplier Part Number 2: 296-10982-5-ND
IC REG INV -5V 0.2A 8SOIC; Supplier 1: Digi-Key; Supplier 2: Digi-Key
footprint SOIC8 (8-Pin Small Outline Integrated Circuit 1.27 mm Pitch, IPC Low Density)
pins: 1 EN, 2 REF, 3 SS, 4 COMP, 5 FB, 6 GND, 7 OUT, 8 VCC

## TPS51397A
designator U?, comment TPS51397ARJER  Supplier Part Number 1: 296-TPS51397ARJERCT-ND
4.5-V TO 24-V INPUT, 10-A, SYNCH; Supplier 1: Digi-Key
footprint MSOP10 (TSSOP, 10-Leads, Body 3.00x3.00mm, Pitch 0.50mm, Thermal Pad 1.68.2x1.68.2mm, IPC Medium Density)
pins: 1 BST (out) "Enable input of buck converter", 2 VIN "Input voltage supply pin for the control circuitry. Connect the input decoupling capacitors between VIN", 3 VIN "Input voltage supply pin for the control circuitry. Connect the input decoupling capacitors between VIN", 4 VIN "Input voltage supply pin for the control circuitry. Connect the input decoupling capacitors between VIN", 5 VIN (power) "Input voltage supply pin for the control circuitry. Connect the input decoupling capacitors between VIN", 6 SW (out) "Enable input of buck converter", 7 PGND "Power GND terminal for the controller circuit and the internal circuitry", 8 PGND "Power GND terminal for the controller circuit and the internal circuitry", 9 PGOOD (out) "Open-drain power-good indicator. It is asserted low if output voltage is out of PG threshold, over", 11 SS (out) "Soft-Start time selection pin. Connecting an external capacitor sets the soft-start time and if no external", 12 EN (in) "Enable input of buck converter", 13 AGND "Enable input of buck converter", 14 FB (in) "Enable input of buck converter", 15 MODE (in) "Switching frequency and light load operation mode selection pin", 17 VCC (power) "Switching frequency and light load operation mode selection pin", 18 PGND "Power GND terminal for the controller circuit and the internal circuitry", 19 SW (out) "Enable input of buck converter", 20 SW (out) "Enable input of buck converter", PP PGND (power) "Power GND terminal for the controller circuit and the internal circuitry"

## TPS54040
designator U?  Supplier Part Number 1: 296-24228-5-ND
Supplier 1: Digi-Key
pins: 1 BOOST, 2 VIN, 3 EN, 4 SS/TR, 5 RT/CLK, 6 PWRGD, 7 VSNS, 8 COMP, 9 GND, 10 PH, 11 PWPD

## TPS54160DGQ
designator U?
footprint MSOP10 (Footprint not found)
pins: 1 BOOT, 2 VIN, 3 EN, 4 SS/TR, 5 RT/CLK, 6 PWRGD, 7 VSNS, 8 COMP, 9 GND, 10 PH

## TPS54225
designator U?
pins: 1 VO, 2 VFB, 4 SS, 5 GND, 6 PG, 7 EN, 7 VREG5, 8 PGND1, 9 PGND2, 10 SW1, 11 SW2, 12 VBST, 13 VIN, 14 VCC, 15 PWPAD

## TPS54623
designator U?  Supplier Part Number 1: 296-29679-1-ND
IC REG BUCK ADJUSTABLE 6A 14VQFN; Supplier 1: Digi-Key
footprint MSOP10 (TSSOP, 10-Leads, Body 3.00x3.00mm, Pitch 0.50mm, Thermal Pad 1.68.2x1.68.2mm, IPC Medium Density)
pins: 1 RT/CLK (in) "Automatically selects between RT mode and CLK mode. An external timing resistor adjusts the", 2 GND (power), 3 GND (power), 4 PVIN (in) "Power input. Supplies the power switches of the power converter", 5 PVIN (in) "Power input. Supplies the power switches of the power converter", 6 VIN (in) "Supplies the control circuitry of the power converter.", 7 VSENSE (in) "Inverting input of the gm error amplifier", 8 COMP (io) "Error amplifier output, and input to the output switch current comparator. Connect frequency", 9 SS/TR (in) "Slow-start and tracking.", 10 EN (in) "Error amplifier output, and input to the output switch current comparator. Connect frequency", 11 PH (out) "The switch node.", 12 PH (out) "The switch node.", 13 BOOT (out) "A bootstrap cap is required between BOOT and PH. The voltage on this cap carries the gate drive", 14 PWRGD (out) "Power Good fault pin. Asserts low if output voltage is low due to thermal shutdown, dropout, overvoltage, EN shutdown or during slow start.", 15 PP "Inverting input of the gm error amplifier"

## TPS62200
designator U?
footprint SOT23-5 (SOT23, 5-Leads, Body 3.0x2.6mm (max), Pitch 0.95mm, IPC Low Density)
pins: 1 VI, 2 GND, 3 EN, 4 FB, 5 SW

## TPS62420DRCR
designator U?
pins: 1 ADJ2, 2 MODE/DATA, 3 VIN, 4 FB1, 5 DEF1, 6 SW1, 7 EN1, 8 GND, 9 EN2, 10 SW2, 11 GND

## TPS62865
designator TPS62865
pins: 1 AGND, 2 PGND, 3 VIN, 4 EN, 5 PG, 6 VSET/MODE, 7 SW, 8 VOS, 9 FB

## TPS72301
designator U?
footprint SOT23-5 (SOT23, 5-Leads, Body 3.0x2.6mm (max), Pitch 0.95mm, IPC Low Density)
pins: 1 GND, 2 IN, 3 EN, 4 FB, 5 OUT

## TPS72325
designator U?  Supplier Part Number 1: 296-15799-1-ND
Supplier 1: Digi-Key
footprint SOT23-5 (SOT23, 5-Leads, Body 3.0x2.6mm (max), Pitch 0.95mm, IPC Low Density)
pins: 1 GND, 2 IN, 3 EN, 4 NR, 5 OUT

## TPS73025
designator U?  Supplier Part Number 1: 296-17578-1-ND
Supplier 1: Digi-Key
footprint SOT23-5 (SOT23, 5-Leads, Body 3.0x2.6mm (max), Pitch 0.95mm, IPC Low Density)
pins: 1 GND, 2 IN, 3 EN, 4 NR, 5 OUT

## TPS566231
designator U?  Supplier Part Number 1: 296-TPS566231PRQFRCT-ND
Supplier 1: Digi-Key
pins: 1 VCC (power), 2 FB (in), 3 EN (in), 4 PGND, 5 VIN, 6 VIN, 7 BST, 8 SW, 9 SS/PG

## TPSM5601R5HRDAR
designator U?
Non-Isolated PoL Module DC DC Converter 1 Output 1 ~ 16V 1.5A 4.2V - 60V Input; Supplier 1: Digi-Key; Supplier Part Number 1: 296-TPSM5601R5HRDARCT-ND
pins: 1 Vin (power), 2 EN (in) "Enable pin. Do not float.", 3 NC, 4 SW (out) "Switch node. Do not place any external component on this pin or connect to any signal.", 5 DNC "Do not connect. Do not connect this pin to ground, to another pin, or to any other voltage. This pin is", 6 NC, 7 VOUT (power) "Output voltage. These pins are connected to the internal output inductor. Connect these pins to the", 8 VOUT (power) "Output voltage. These pins are connected to the internal output inductor. Connect these pins to the", 9 FB (in) "Feedback input. Connect the mid-point of the feedback resistor divider to this pin", 10 AGND (power), 11 V5V (power) "Internal 5-V LDO output.", 12 PGood (oc) "Power-good pin. Open-drain output that asserts low if the feedback voltage is not within the specified.", 13 NC, 14 Vin (power), 15 PGND (power) "Power ground. This is the return current path for the power stage of the device."

## TR 1
designator TR?
pins: 1, 2, 3, 4, 7, 8

## TRACO/TMLM101xx
designator U?, comment LMLM101xx
pins: 1 AC in, 2 AC in, 3 Vout+, 4 Vout-
text: DC 12V; +; ~; AC 90..264V; -

## TRANS/1:1/AUDIO
designator T?, comment MET-31  Supplier Part Number 1: MT4111-ND
Transformer 1:1; Supplier 1: Digi-Key
footprint MET31
pins: 1, 2, 3, 4, 5, 6

## Transformateur 1:1
designator T?
Transformer 1:1
pins: 1, 2, 3, 4

## TRANSFORMER/L01-6330
designator D?, comment LTST-C170CKT
Led 0805 Red; Supplier 1: Digi-Key
footprint TRANSFORMER/L01-6330
pins: 1 110V+, 2 110V+, 3 110V+, 4 110V+, 5, 6, 7, 8

## TRIAC
designator D?, comment Triac
pins: 1, 2, 3

## TS12A12511
designator U?
ANALOG Switch; Supplier 1: Digi-Key
footprint SOT23-8
pins: 1 COM, 2 NC, 3 GND, 4 V+, 6 IN, 7 V-, 8 NO

## TS391
designator U?  Supplier Part Number 1: TS391SN2T1GOSCT-ND
Supplier 1: Digi-Key; Value: TS391
footprint SOT23-5 (SOT23, 5-Leads, Body 3.0x2.6mm (max), Pitch 0.95mm, IPC Low Density)
pins: 1 OUT, 2 V-, 3 IN-, 4 IN+, 5 V+

## TSSE3H60
designator D?  Supplier Part Number 1: TSSE3H60RVGCT-ND
DIODE SCHOTTKY 60V 3A SOD123HE; Value: TSSE3H60; Supplier 1: Digi-Key
footprint SOD123HE
pins: 1 K, 2 A

## TXB0104RGYR
designator U?  Supplier Part Number 1: 296-21930-1-ND
4-Bit Bidirectional Voltage-Level Shifter with Auto Direction Sensing and +/-15 kV ESD Protect 14-VQFN -40 to 85; Package: None; Price: None; Value: *; MP: TXB0104RGYR; Availability: Unavailable; Supplier 1: Digi-Key
footprint QFN50P350X350X100-15N
pins: 1 VCCA (power), 2 A1 (io), 3 A2 (io), 4 A3 (io), 5 A4 (io), 7 GND (power), 8 OE (in), 10 B4 (io), 11 B3 (io), 12 B2 (io), 13 B1 (io), 14 VCCB (power), 15 EXP

## TXB0106RGYR
designator U?, comment TXB0104RGYR  Supplier Part Number 1: 296-21930-1-ND
4-Bit Bidirectional Voltage-Level Shifter with Auto Direction Sensing and +/-15 kV ESD Protect 14-VQFN -40 to 85; Package: None; Price: None; Value: *; MP: TXB0104RGYR; Availability: Unavailable; Supplier 1: Digi-Key
pins: 1 A1 (io), 2 VCCA (power), 3 A2 (io), 4 A3 (io), 5 A4 (io), 6 A5 (io), 7 A6 (io), 8 OE (in), 9 GND (power), 10 B6 (io), 11 B5 (io), 12 B4 (io), 13 B3 (io), 14 B2 (io), 15 VCCB (power), 16 B1 (io), 16 EXP

## TXU0304
designator U?, comment TXU0304RUTR  Supplier Part Number 1: 296-TXU0304RUTRCT-ND
FOUR CHANNEL UNIDIRECTIONAL LEVE / Voltage Level Translator Unidirectional 1 Circuit 4 Channel 200Mbps 12-UQFN (1.7x2); MP: TXB0104RGYR; Package: None; Price: None; Value: *; Availability: Unavailable; Supplier 1: Digi-Key
footprint QFN40P170X200X55-12N
pins: 1 VCCA (power), 2 A1 (in), 3 A2 (in), 4 A3 (in), 5 A4Y (out), 6 GND (power), 7 B4 (in), 8 B3Y (out), 9 B2Y (out), 10 B1Y (out), 11 VCCB (power), 12 OE (in)

## Tyco
designator *

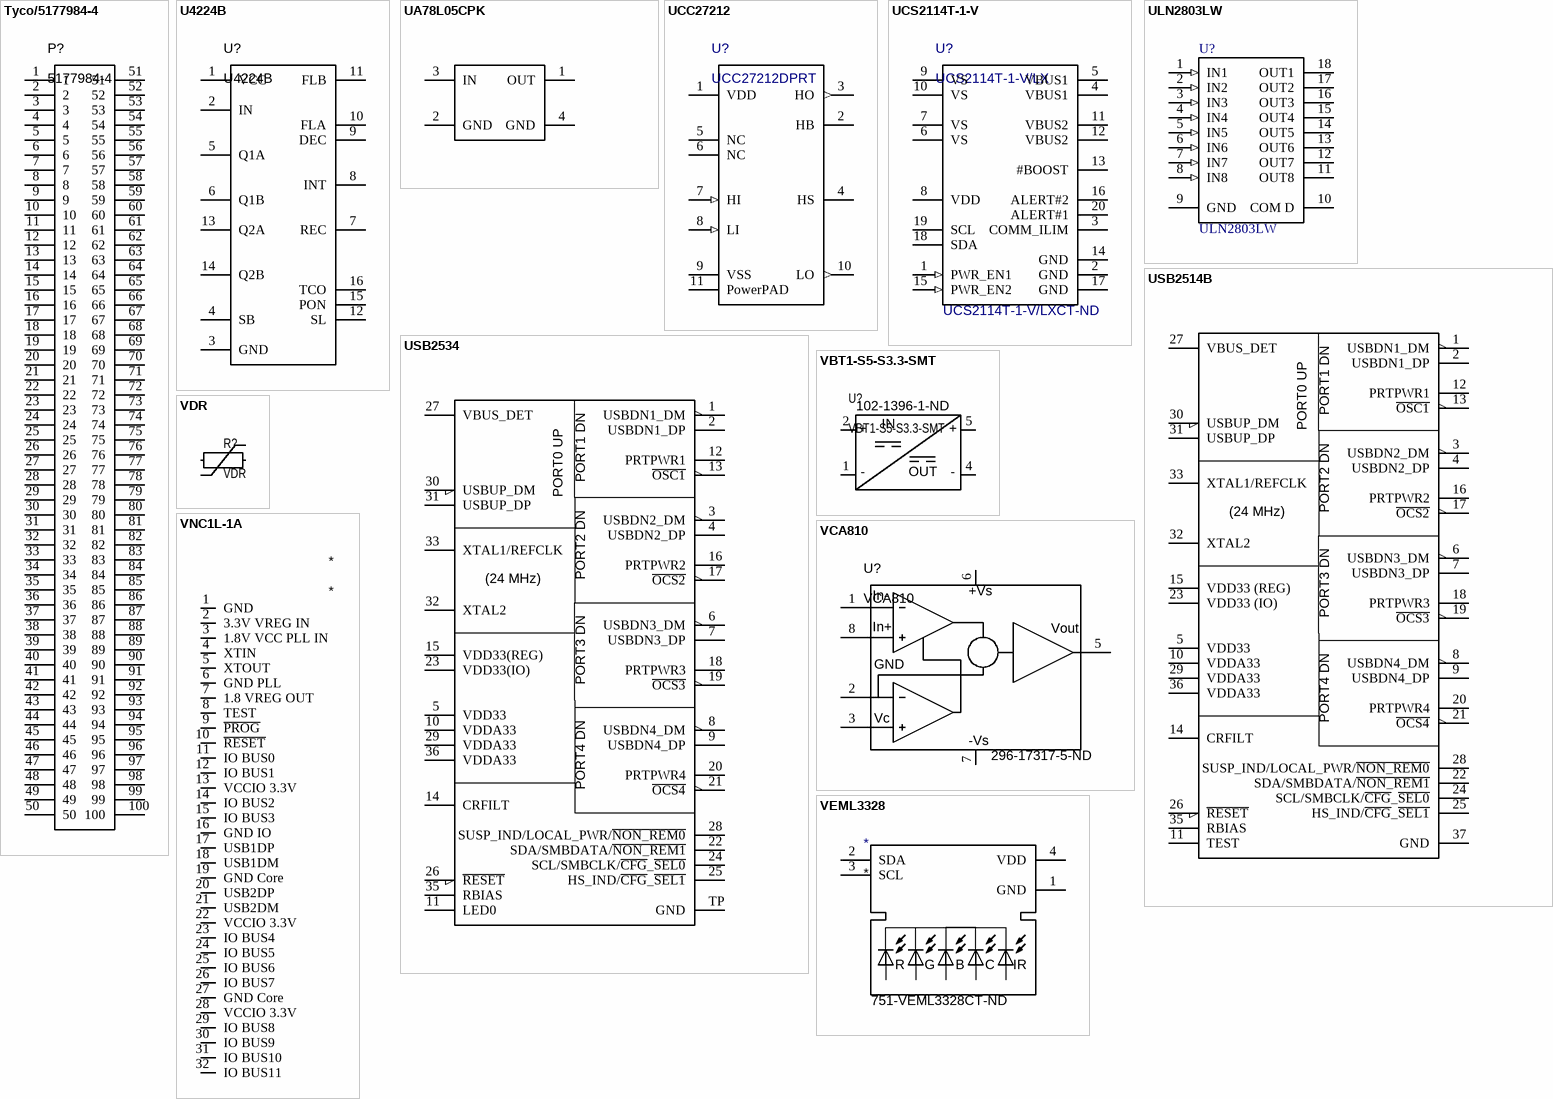
[diagram p23: symbols Tyco/5177984-4 to VNC1L-1A]

## Tyco/5177984-4
designator P?, comment 5177984-4
pins: 1, 2, 3, 4, 5, 6, 7, 8, 9, 10, 11, 12, 13, 14, 15, 16, 17, 18, 19, 20, 21, 22, 23, 24, 25, 26, 27, 28, 29, 30, 31, 32, 33, 34, 35, 36, 37, 38, 39, 40, 41, 42, 43, 44, 45, 46, 47, 48, 49, 50, 51, 52, 53, 54, 55, 56, 57, 58, 59, 60, 61, 62, 63, 64, 65, 66, 67, 68, 69, 70, 71, 72, 73, 74, 75, 76, 77, 78, 79, 80, 81, 82, 83, 84, 85, 86, 87, 88, 89, 90, 91, 92, 93, 94, 95, 96, 97, 98, 99, 100

## U4224B
designator U?
Time-Code Receiver with Digitalized Serial Output
pins: 1 VCC, 2 IN, 3 GND, 4 SB, 5 Q1A, 6 Q1B, 7 REC, 8 INT, 9 DEC, 10 FLA, 11 FLB, 12 SL, 13 Q2A, 14 Q2B, 15 PON, 16 TCO

## UA78L05CPK
designator U?  Supplier Part Number 2: 296-13531-1-ND
Supplier 1: Digi-Key; Supplier 2: Digi-Key
pins: 1 OUT, 2 GND, 3 IN, 4 GND

## UCC27212
designator U?, comment UCC27212DPRT
Half-Bridge Gate Driver IC Non-Inverting 10-WSON (4x4); Supplier 1: Digi-Key; Supplier Part Number 1: 296-47091-1-ND
pins: 1 VDD (power) "Positive supply to the lower-gate driver", 2 HB (power) "High-side bootstrap supply.", 3 HO (out) "High-side output. Connect to the gate of the high-side power MOSFET.", 4 HS (power) "High-side source connection. Connect to source of high-side power MOSFET. Connect the", 5 NC "No internal connection", 6 NC "No internal connection", 7 HI (in) "High-side input", 8 LI (in) "Low-side input", 9 VSS (power) "Negative supply terminal for the device which is generally grounded", 10 LO (out) "Low-side output. Connect to the gate of the low-side power MOSFET", 11 PowerPAD (power) "Connect to a large thermal mass trace or GND plane to dramatically improve thermal"

## UCS2114T-1-V
designator U?, comment UCS2114T-1-V/LX  Supplier Part Number 1: UCS2114T-1-V/LXCT-ND
Power Switch/Driver 1:1 - 3A 20-VQFN (3x3); Value: UCS2114T-1-V/LX; Supplier 1: Digi-Key
footprint IC_UCS2114-1-V/LX
pins: 1 PWR_EN1 (in), 2 GND (power), 3 COMM_ILIM, 4 VBUS1 (power), 5 VBUS1 (power), 6 VS (power), 7 VS (power), 8 VDD (power), 9 VS (power), 10 VS (power), 11 VBUS2 (power), 12 VBUS2 (power), 13 #BOOST, 14 GND (power), 15 PWR_EN2 (in), 16 ALERT#2 (oc), 17 GND (power), 18 SDA, 19 SCL, 20 ALERT#1 (oc)

## ULN2803LW
designator U?
High-Voltage, High-Current Darlington Array; Published: 13-Oct-2000; LatestRevisionDate: 13-Apr-2006; LatestRevisionNote: IPC-7351 Footprint Added.; DatasheetVersion: 1999; PackageReference: LW18; Publisher: Altium Limited; PackageDescription: 18-Pin Small Outline Integrated Circuit 1.27 mm Pitch; Code_JEDEC: MS-013-AB; ComponentLink1Description: Manufacturer Link; ComponentLink1URL: http://www.allegromicro.com/
footprint LW18_N (SOIC, 18-Leads, Body 11.6x7.5mm, Pitch 1.27mm, IPC Medium Density)
footprint LW18_L (SOIC, 18-Leads, Body 11.6x7.5mm, Pitch 1.27mm, IPC High Density)
footprint LW18_M (SOIC, 18-Leads, Body 11.6x7.5mm, Pitch 1.27mm, IPC Low Density)
3D model LW18 (18-Pin Small Outline Integrated Circuit 1.27 mm Pitch)
pins: 1 IN1 (in), 2 IN2 (in), 3 IN3 (in), 4 IN4 (in), 5 IN5 (in), 6 IN6 (in), 7 IN7 (in), 8 IN8 (in), 9 GND (power), 10 COM D, 11 OUT8 (oc), 12 OUT7 (oc), 13 OUT6 (oc), 14 OUT5 (oc), 15 OUT4 (oc), 16 OUT3 (oc), 17 OUT2 (oc), 18 OUT1 (oc)

## USB2514B
designator U?, comment USB2514  Supplier Part Number 1: 8104043
USB2 HUB 4-PORT; Supplier 1: RSComponents
footprint QFN36_6X6_MCH
pins: 1 USBDN1_DM, 2 USBDN1_DP, 3 USBDN2_DM, 4 USBDN2_DP, 5 VDD33, 6 USBDN3_DM, 7 USBDN3_DP, 8 USBDN4_DM, 9 USBDN4_DP, 10 VDDA33, 11 TEST, 12 PRTPWR1, 13 ~{OSC1}, 14 CRFILT, 15 VDD33 (REG), 16 PRTPWR2, 17 ~{OCS2}, 18 PRTPWR3, 19 ~{OCS3}, 20 PRTPWR4, 21 ~{OCS4}, 22 SDA/SMBDATA/~{NON_REM1}, 23 VDD33 (IO), 24 SCL/SMBCLK/~{CFG}_~{SEL0}, 25 HS_IND/~{CFG}_~{SEL1}, 26 ~{RESET}, 27 VBUS_DET, 28 SUSP_IND/LOCAL_PWR/~{NON_REM0}, 29 VDDA33, 30 USBUP_DM, 31 USBUP_DP, 32 XTAL2, 33 XTAL1/REFCLK, 35 RBIAS, 36 VDDA33, 37 GND
text: PORT1 DN; PORT0 UP; PORT2 DN; (24 MHz); PORT3 DN; PORT4 DN

## USB2534
designator U?  Supplier Part Number 1: 8104043
USB2 HUB 4-PORT; Supplier 1: RSComponents
pins: 1 USBDN1_DM, 2 USBDN1_DP, 3 USBDN2_DM, 4 USBDN2_DP, 5 VDD33, 6 USBDN3_DM, 7 USBDN3_DP, 8 USBDN4_DM, 9 USBDN4_DP, 10 VDDA33, 11 LED0, 12 PRTPWR1, 13 ~{OSC1}, 14 CRFILT, 15 VDD33(REG), 16 PRTPWR2, 17 ~{OCS2}, 18 PRTPWR3, 19 ~{OCS3}, 20 PRTPWR4, 21 ~{OCS4}, 22 SDA/SMBDATA/~{NON_REM1}, 23 VDD33(IO), 24 SCL/SMBCLK/~{CFG}_~{SEL0}, 25 HS_IND/~{CFG}_~{SEL1}, 26 ~{RESET}, 27 VBUS_DET, 28 SUSP_IND/LOCAL_PWR/~{NON_REM0}, 29 VDDA33, 30 USBUP_DM, 31 USBUP_DP, 32 XTAL2, 33 XTAL1/REFCLK, 35 RBIAS, 36 VDDA33, TP GND
text: PORT1 DN; PORT0 UP; PORT2 DN; (24 MHz); PORT3 DN; PORT4 DN

## VBT1-S5-S3.3-SMT
designator U?  Supplier Part Number 1: 102-1396-1-ND
3kVDC Isolated 1W Single Output DC/DC Converters; Supplier 1: Digi-Key
footprint VBT1-SMT
pins: 1 -VIN, 2 +VIN, 4 -VOUT, 5 +VOUT
text: IN; +; -; OUT

## VCA810
designator U?  Supplier Part Number 1: 296-17317-5-ND
Supplier 1: Digi-Key
pins: 1 V+, 2 GND, 3 VC, 5 VOUT, 6 VCC, 7 VSS, 8  V-
text: +Vs; In-; In+; Vout; Vc; -Vs

## VDR
designator R?
Chip Resistor SMD
simulation model RES (Default semiconductor resistor)
pins: 1, 2

## VEML3328
designator *  Supplier Part Number 1: 751-VEML3328CT-ND
Supplier 1: Digi-Key
pins: 1 GND, 2 SDA, 3 SCL, 4 VDD
text: R; G; B; C; IR

## VNC1L-1A
designator *
pins: 1 GND, 2 3.3V VREG IN, 3 1.8V VCC PLL IN, 4 XTIN, 5 XTOUT, 6 GND PLL, 7 1.8 VREG OUT, 8 TEST, 9 ~{PROG}, 10 ~{RESET}, 11 IO BUS0, 12 IO BUS1, 13 VCCIO 3.3V, 14 IO BUS2, 15 IO BUS3, 16 GND IO, 17 USB1DP, 18 USB1DM, 19 GND Core, 20 USB2DP, 21 USB2DM, 22 VCCIO 3.3V, 23 IO BUS4, 24 IO BUS5, 25 IO BUS6, 26 IO BUS7, 27 GND Core, 28 VCCIO 3.3V, 29 IO BUS8, 30 IO BUS9, 31 IO BUS10, 32 IO BUS11

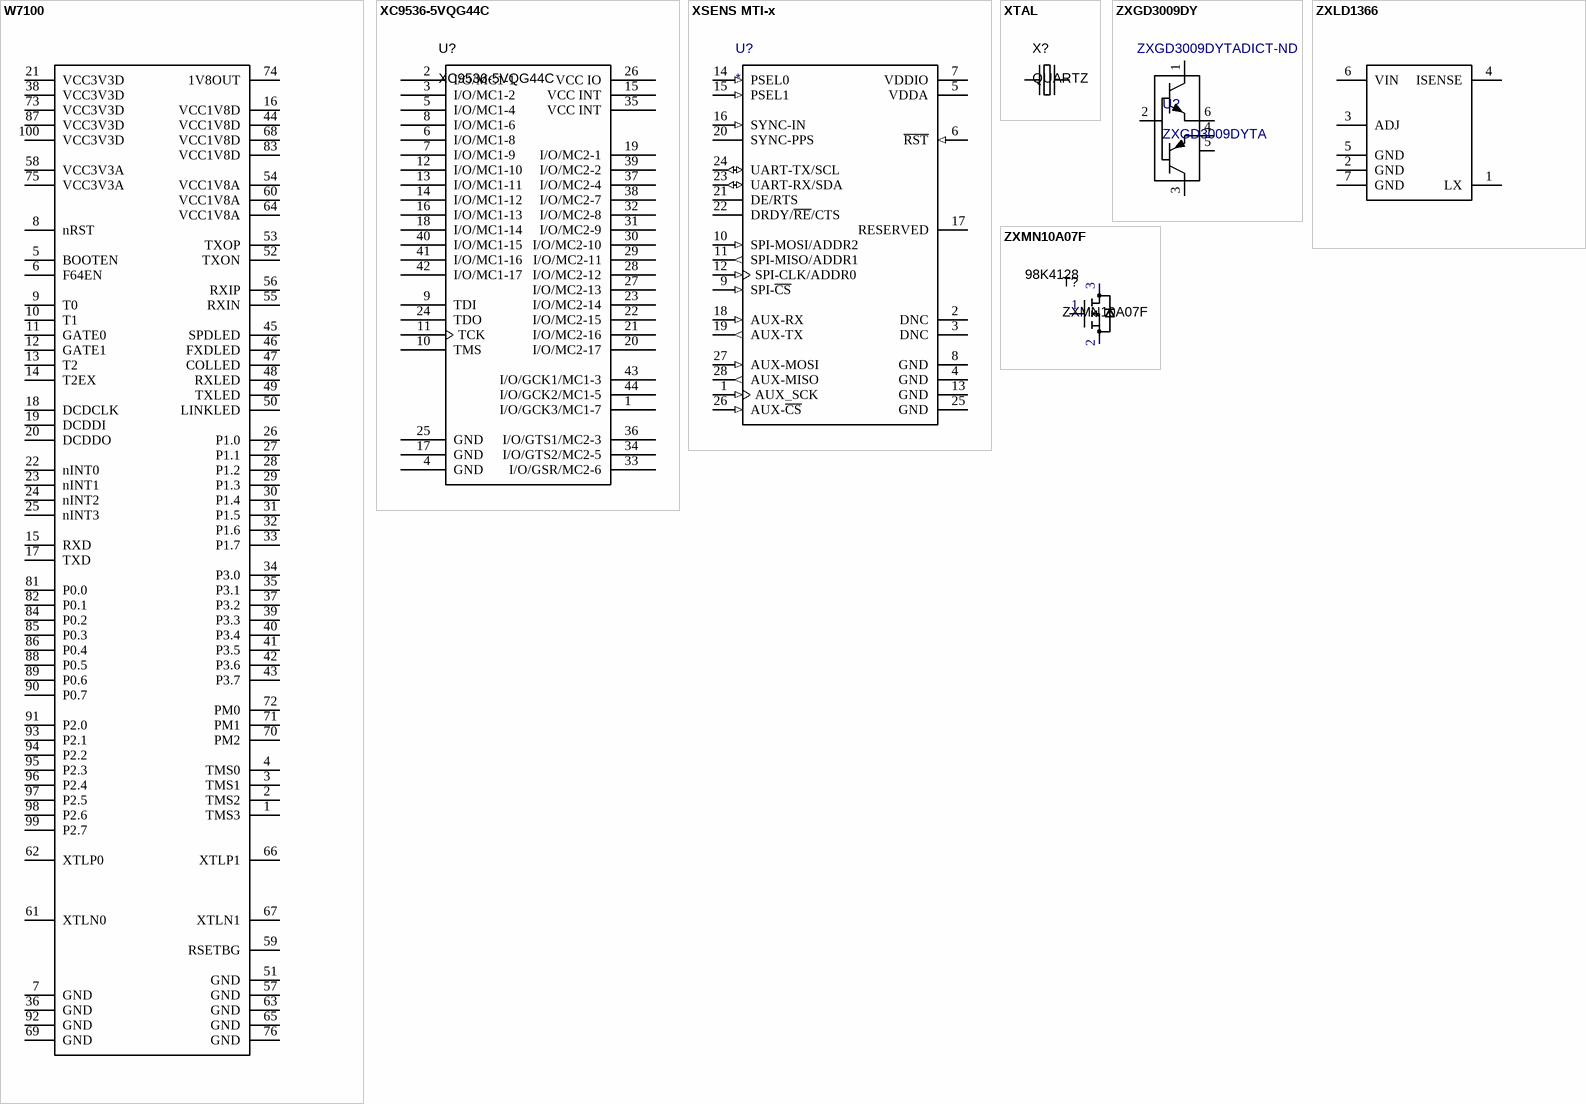
[diagram p24: symbols W7100 to ZXMN10A07F]

## W7100
designator U?  Supplier Part Number 2: 950-W7100A
8051 + HARDWIRED TCP/IP+MAC+PHY; Supplier 1: Digi-Key; Supplier 2: Mouser
footprint TQFP100 (Footprint not found)
pins: 1 TMS3, 2 TMS2, 3 TMS1, 4 TMS0, 5 BOOTEN, 6 F64EN, 7 GND, 8 nRST, 9 T0, 10 T1, 11 GATE0, 12 GATE1, 13 T2, 14 T2EX, 15 RXD, 16 VCC1V8D, 17 TXD, 18 DCDCLK, 19 DCDDI, 20 DCDDO, 21 VCC3V3D, 22 nINT0, 23 nINT1, 24 nINT2, 25 nINT3, 26 P1.0, 27 P1.1, 28 P1.2, 29 P1.3, 30 P1.4, 31 P1.5, 32 P1.6, 33 P1.7, 34 P3.0, 35 P3.1, 36 GND, 37 P3.2, 38 VCC3V3D, 39 P3.3, 40 P3.4, 41 P3.5, 42 P3.6, 43 P3.7, 44 VCC1V8D, 45 SPDLED, 46 FXDLED, 47 COLLED, 48 RXLED, 49 TXLED, 50 LINKLED, 51 GND, 52 TXON, 53 TXOP, 54 VCC1V8A, 55 RXIN, 56 RXIP, 57 GND, 58 VCC3V3A, 59 RSETBG, 60 VCC1V8A, 61 XTLN0, 62 XTLP0, 63 GND, 64 VCC1V8A, 65 GND, 66 XTLP1, 67 XTLN1, 68 VCC1V8D, 69 GND, 70 PM2, 71 PM1, 72 PM0, 73 VCC3V3D, 74 1V8OUT, 75 VCC3V3A, 76 GND, 81 P0.0, 82 P0.1, 83 VCC1V8D, 84 P0.2, 85 P0.3, 86 P0.4, 87 VCC3V3D, 88 P0.5, 89 P0.6, 90 P0.7, 91 P2.0, 92 GND, 93 P2.1, 94 P2.2, 95 P2.3, 96 P2.4, 97 P2.5, 98 P2.6, 99 P2.7, 100 VCC3V3D

## XC9536-5VQG44C
designator U?
XC9500, 5V CPLD with 36 Macrocells, 44-Pin VQFP, Commercial Grade, Pb-Free
pins: 1 I/O/GCK3/MC1-7, 2 I/O/MC1-1, 3 I/O/MC1-2, 4 GND (power), 5 I/O/MC1-4, 6 I/O/MC1-8, 7 I/O/MC1-9, 8 I/O/MC1-6, 9 TDI, 10 TMS, 11 TCK, 12 I/O/MC1-10, 13 I/O/MC1-11, 14 I/O/MC1-12, 15 VCC INT (power), 16 I/O/MC1-13, 17 GND (power), 18 I/O/MC1-14, 19 I/O/MC2-1, 20 I/O/MC2-17, 21 I/O/MC2-16, 22 I/O/MC2-15, 23 I/O/MC2-14, 24 TDO, 25 GND (power), 26 VCC IO (power), 27 I/O/MC2-13, 28 I/O/MC2-12, 29 I/O/MC2-11, 30 I/O/MC2-10, 31 I/O/MC2-9, 32 I/O/MC2-8, 33 I/O/GSR/MC2-6, 34 I/O/GTS2/MC2-5, 35 VCC INT (power), 36 I/O/GTS1/MC2-3, 37 I/O/MC2-4, 38 I/O/MC2-7, 39 I/O/MC2-2, 40 I/O/MC1-15, 41 I/O/MC1-16, 42 I/O/MC1-17, 43 I/O/GCK1/MC1-3, 44 I/O/GCK2/MC1-5

## XSENS MTI-x
designator U?
Accelerometer, Gyroscope, Magnetometer, 9 Axis Sensor I²C, SPI, UART Output
footprint MTi-1_PLCC_28P (MTi-1-series PLCC board)
pins: 1 AUX_SCK (in), 2 DNC, 3 DNC, 4 GND, 5 VDDA (power), 6 ~{RST} (in), 7 VDDIO (power), 8 GND, 9 SPI-~{CS} (in), 10 SPI-MOSI/ADDR2 (in), 11 SPI-MISO/ADDR1 (out), 12 SPI-CLK/ADDR0 (in), 13 GND, 14 PSEL0 (in), 15 PSEL1 (in), 16 SYNC-IN (in), 17 RESERVED, 18 AUX-RX (in), 19 AUX-TX (out), 20 SYNC-PPS, 21 DE/RTS, 22 DRDY/~{RE}/CTS, 23 UART-RX/SDA (io), 24 UART-TX/SCL (io), 25 GND, 26 AUX-~{CS} (in), 27 AUX-MOSI (in), 28 AUX-MISO (out)

## XTAL
designator X?, comment QUARTZ
pins: 1, 2

## ZXGD3009DY
designator U?, comment ZXGD3009DYTA  Supplier Part Number 1: ZXGD3009DYTADICT-ND
IC GATE DRVR LOW-SIDE SOT363; Value: ZXGD3009DYTA; Supplier 1: Digi-Key
footprint SC70-6 (SOT363, 6-Leads, Body 2x1.3mm, Pitch 0.65mm, Lead Span 2.1mm, IPC Low Density)
pins: 1 VCC, 2 IN, 3 VEE, 4 SINK, 5 SINK, 6 SOURCE

## ZXLD1366
designator U?
HIGH ACCURACY 1A, 60V LED DRIVER; Supplier 1: Digi-Key
footprint DFN3030-6 (Footprint not found)
pins: 1 LX, 2 GND, 3 ADJ, 4 ISENSE, 5 GND, 6 VIN, 7 GND

## ZXMN10A07F
designator T?  Supplier Part Number 1: 98K4128
N.channel TrenchMOS FET  Logic level; Supplier 1: Newark
footprint SOT23-3 (SOT23, 3-Leads, Body 3.0x2.6mm (max), Pitch 0.95mm, IPC Low Density)
pins: 1 VCC, 2 VCC, 3 VCC